# Altium integrated library Lattice CPLD ispMACH.IntLib: 663 symbols (part 4 of 48)
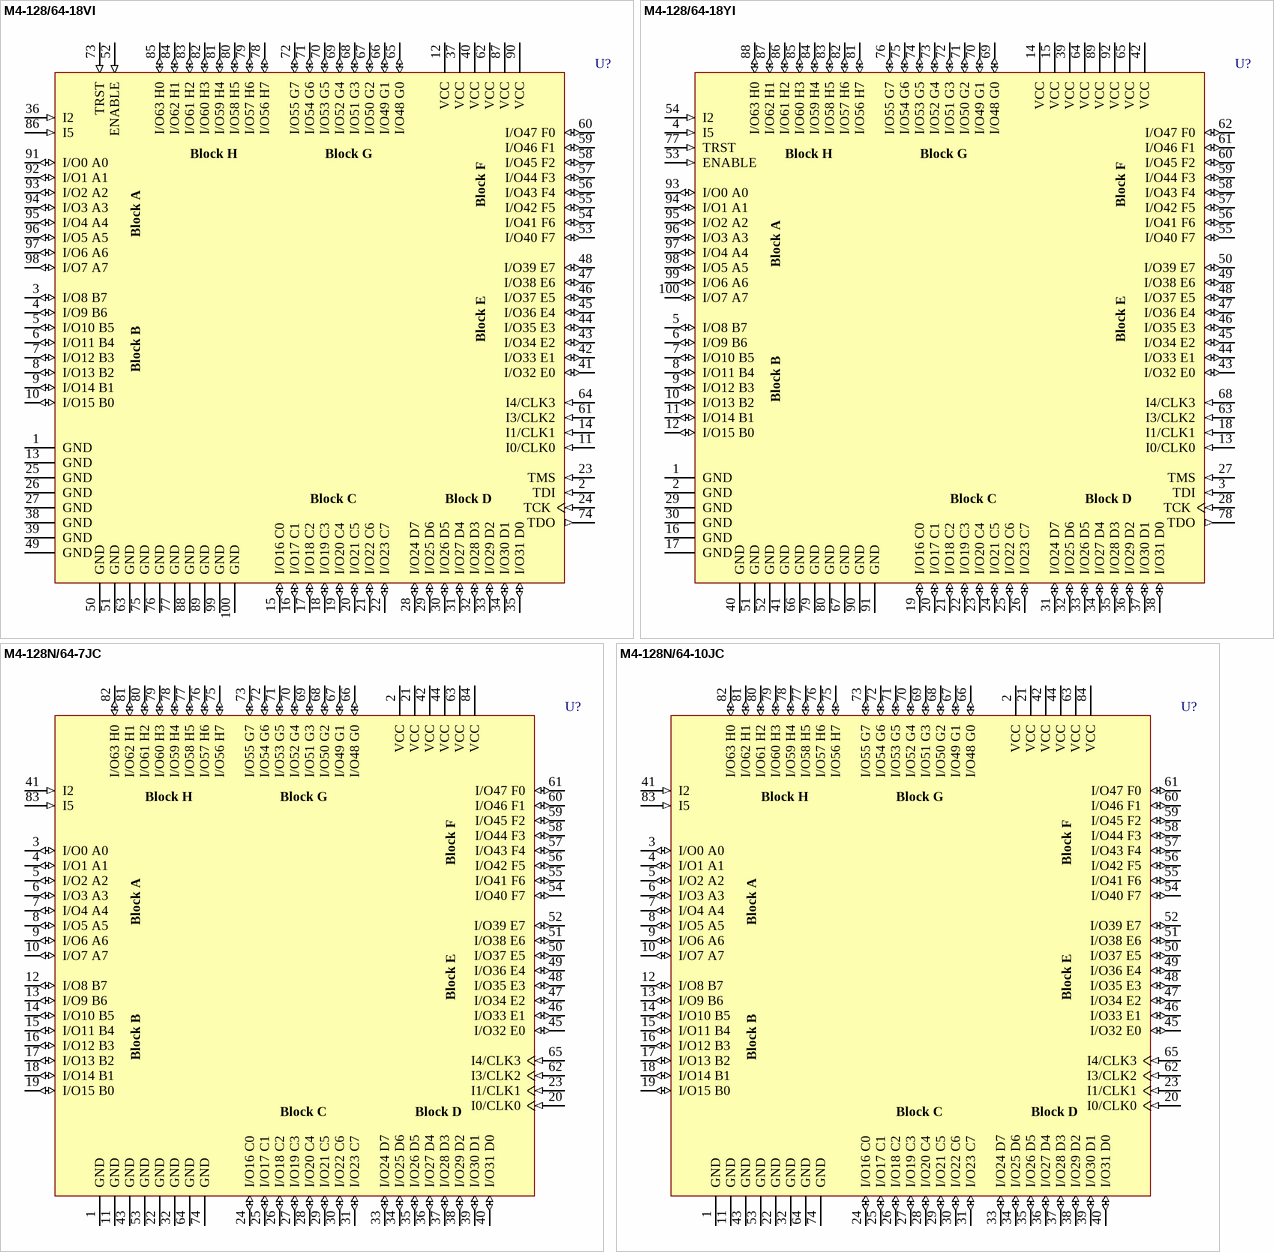
[diagram p309: symbols M4-128/64-18VI to M4-128N/64-10JC]

## M4-128N/64-10JC
designator U?
High-Performance EE CMOS In-System Programmable Logic; Published: 23-Sep-2002; LatestRevisionDate: 13-Apr-2006; LatestRevisionNote: IPC-7351 Footprint Added.; DatasheetVersion: Mar-2000; PackageVersion: pkg_32, Aug-2005; PackageReference: PLCC84; Publisher: Altium Limited; PackageDescription: 84-Pin Leaded Chip Carrier 1.27 mm Pitch; Code_IPC: PLCC-84; ComponentLink1Description: Manufacturer Link; ComponentLink1URL: http://www.latticesemi.com/products/mature/index.cfm; ComponentLink2Description: Datasheet; ComponentLink2URL: http://www.latticesemi.com/lit/docs/datasheets/cpld/mach4.pdf
footprint PLCC84_N (Leaded Chip Carrier, 84-Leads, Body 29.3x29.3mm, Pitch 1.27mm, IPC Medium Density)
footprint PLCC84_L (Leaded Chip Carrier, 84-Leads, Body 29.3x29.3mm, Pitch 1.27mm, IPC High Density)
footprint PLCC84_M (Leaded Chip Carrier, 84-Leads, Body 29.3x29.3mm, Pitch 1.27mm, IPC Low Density)
3D model M4-PLCC84 (84-Pin Leaded Chip Carrier 1.27 mm Pitch)
pins: 1 GND (power), 2 VCC (power), 3 I/O0 A0 (io), 4 I/O1 A1 (io), 5 I/O2 A2 (io), 6 I/O3 A3 (io), 7 I/O4 A4 (io), 8 I/O5 A5 (io), 9 I/O6 A6 (io), 10 I/O7 A7 (io), 11 GND (power), 12 I/O8 B7 (io), 13 I/O9 B6 (io), 14 I/O10 B5 (io), 15 I/O11 B4 (io), 16 I/O12 B3 (io), 17 I/O13 B2 (io), 18 I/O14 B1 (io), 19 I/O15 B0 (io), 20 I0/CLK0 (in), 21 VCC (power), 22 GND (power), 23 I1/CLK1 (in), 24 I/O16 C0 (io), 25 I/O17 C1 (io), 26 I/O18 C2 (io), 27 I/O19 C3 (io), 28 I/O20 C4 (io), 29 I/O21 C5 (io), 30 I/O22 C6 (io), 31 I/O23 C7 (io), 32 GND (power), 33 I/O24 D7 (io), 34 I/O25 D6 (io), 35 I/O26 D5 (io), 36 I/O27 D4 (io), 37 I/O28 D3 (io), 38 I/O29 D2 (io), 39 I/O30 D1 (io), 40 I/O31 D0 (io), 41 I2 (in), 42 VCC (power), 43 GND (power), 44 VCC (power), 45 I/O32 E0 (io), 46 I/O33 E1 (io), 47 I/O34 E2 (io), 48 I/O35 E3 (io), 49 I/O36 E4 (io), 50 I/O37 E5 (io), 51 I/O38 E6 (io), 52 I/O39 E7 (io), 53 GND (power), 54 I/O40 F7 (io), 55 I/O41 F6 (io), 56 I/O42 F5 (io), 57 I/O43 F4 (io), 58 I/O44 F3 (io), 59 I/O45 F2 (io), 60 I/O46 F1 (io), 61 I/O47 F0 (io), 62 I3/CLK2 (in), 63 VCC (power), 64 GND (power), 65 I4/CLK3 (in), 66 I/O48 G0 (io), 67 I/O49 G1 (io), 68 I/O50 G2 (io), 69 I/O51 G3 (io), 70 I/O52 G4 (io), 71 I/O53 G5 (io), 72 I/O54 G6 (io), 73 I/O55 G7 (io), 74 GND (power), 75 I/O56 H7 (io), 76 I/O57 H6 (io), 77 I/O58 H5 (io), 78 I/O59 H4 (io), 79 I/O60 H3 (io), 80 I/O61 H2 (io), 81 I/O62 H1 (io), 82 I/O63 H0 (io), 83 I5 (in), 84 VCC (power)
text: Block H; Block G; Block F; Block A; Block E; Block B; Block C; Block D

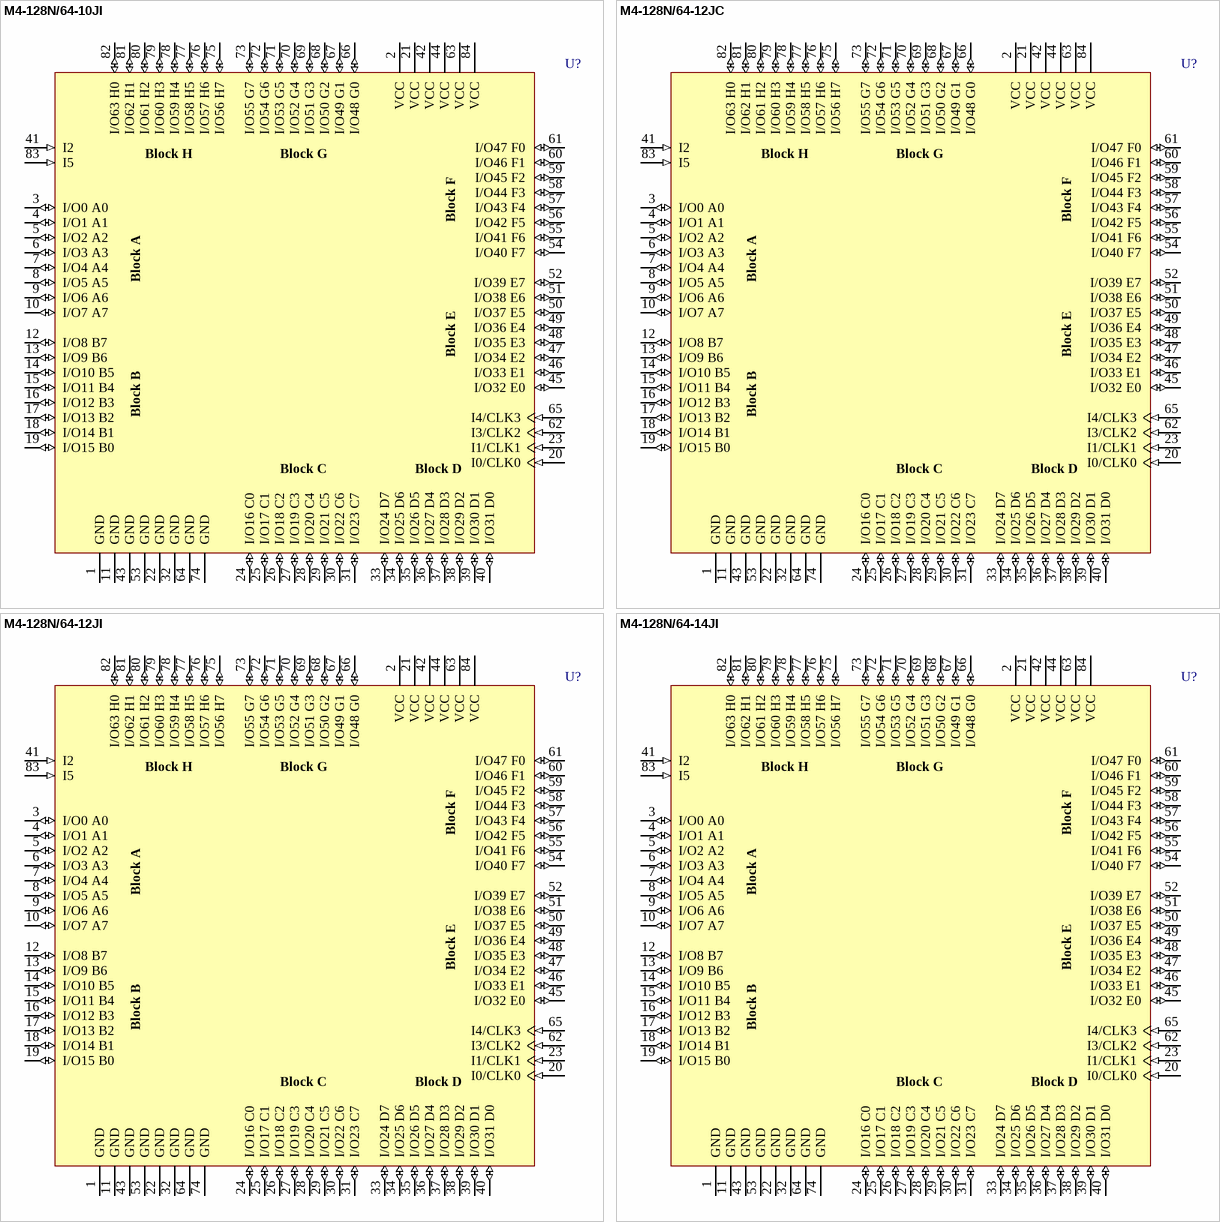
[diagram p12: symbols M4-128N/64-10JI to M4-128N/64-14JI]

## M4-128N/64-10JI
designator U?
High-Performance EE CMOS In-System Programmable Logic; Published: 23-Sep-2002; LatestRevisionDate: 13-Apr-2006; LatestRevisionNote: IPC-7351 Footprint Added.; DatasheetVersion: Mar-2000; PackageVersion: pkg_32, Aug-2005; PackageReference: PLCC84; Publisher: Altium Limited; PackageDescription: 84-Pin Leaded Chip Carrier 1.27 mm Pitch; Code_IPC: PLCC-84; ComponentLink1Description: Manufacturer Link; ComponentLink1URL: http://www.latticesemi.com/products/mature/index.cfm; ComponentLink2Description: Datasheet; ComponentLink2URL: http://www.latticesemi.com/lit/docs/datasheets/cpld/mach4.pdf
footprint PLCC84_N (Leaded Chip Carrier, 84-Leads, Body 29.3x29.3mm, Pitch 1.27mm, IPC Medium Density)
footprint PLCC84_L (Leaded Chip Carrier, 84-Leads, Body 29.3x29.3mm, Pitch 1.27mm, IPC High Density)
footprint PLCC84_M (Leaded Chip Carrier, 84-Leads, Body 29.3x29.3mm, Pitch 1.27mm, IPC Low Density)
3D model M4-PLCC84 (84-Pin Leaded Chip Carrier 1.27 mm Pitch)
pins: 1 GND (power), 2 VCC (power), 3 I/O0 A0 (io), 4 I/O1 A1 (io), 5 I/O2 A2 (io), 6 I/O3 A3 (io), 7 I/O4 A4 (io), 8 I/O5 A5 (io), 9 I/O6 A6 (io), 10 I/O7 A7 (io), 11 GND (power), 12 I/O8 B7 (io), 13 I/O9 B6 (io), 14 I/O10 B5 (io), 15 I/O11 B4 (io), 16 I/O12 B3 (io), 17 I/O13 B2 (io), 18 I/O14 B1 (io), 19 I/O15 B0 (io), 20 I0/CLK0 (in), 21 VCC (power), 22 GND (power), 23 I1/CLK1 (in), 24 I/O16 C0 (io), 25 I/O17 C1 (io), 26 I/O18 C2 (io), 27 I/O19 C3 (io), 28 I/O20 C4 (io), 29 I/O21 C5 (io), 30 I/O22 C6 (io), 31 I/O23 C7 (io), 32 GND (power), 33 I/O24 D7 (io), 34 I/O25 D6 (io), 35 I/O26 D5 (io), 36 I/O27 D4 (io), 37 I/O28 D3 (io), 38 I/O29 D2 (io), 39 I/O30 D1 (io), 40 I/O31 D0 (io), 41 I2 (in), 42 VCC (power), 43 GND (power), 44 VCC (power), 45 I/O32 E0 (io), 46 I/O33 E1 (io), 47 I/O34 E2 (io), 48 I/O35 E3 (io), 49 I/O36 E4 (io), 50 I/O37 E5 (io), 51 I/O38 E6 (io), 52 I/O39 E7 (io), 53 GND (power), 54 I/O40 F7 (io), 55 I/O41 F6 (io), 56 I/O42 F5 (io), 57 I/O43 F4 (io), 58 I/O44 F3 (io), 59 I/O45 F2 (io), 60 I/O46 F1 (io), 61 I/O47 F0 (io), 62 I3/CLK2 (in), 63 VCC (power), 64 GND (power), 65 I4/CLK3 (in), 66 I/O48 G0 (io), 67 I/O49 G1 (io), 68 I/O50 G2 (io), 69 I/O51 G3 (io), 70 I/O52 G4 (io), 71 I/O53 G5 (io), 72 I/O54 G6 (io), 73 I/O55 G7 (io), 74 GND (power), 75 I/O56 H7 (io), 76 I/O57 H6 (io), 77 I/O58 H5 (io), 78 I/O59 H4 (io), 79 I/O60 H3 (io), 80 I/O61 H2 (io), 81 I/O62 H1 (io), 82 I/O63 H0 (io), 83 I5 (in), 84 VCC (power)
text: Block H; Block G; Block F; Block A; Block E; Block B; Block C; Block D

## M4-128N/64-12JC
designator U?
High-Performance EE CMOS In-System Programmable Logic; Published: 23-Sep-2002; LatestRevisionDate: 13-Apr-2006; LatestRevisionNote: IPC-7351 Footprint Added.; DatasheetVersion: Mar-2000; PackageVersion: pkg_32, Aug-2005; PackageReference: PLCC84; Publisher: Altium Limited; PackageDescription: 84-Pin Leaded Chip Carrier 1.27 mm Pitch; Code_IPC: PLCC-84; ComponentLink1Description: Manufacturer Link; ComponentLink1URL: http://www.latticesemi.com/products/mature/index.cfm; ComponentLink2Description: Datasheet; ComponentLink2URL: http://www.latticesemi.com/lit/docs/datasheets/cpld/mach4.pdf
footprint PLCC84_N (Leaded Chip Carrier, 84-Leads, Body 29.3x29.3mm, Pitch 1.27mm, IPC Medium Density)
footprint PLCC84_L (Leaded Chip Carrier, 84-Leads, Body 29.3x29.3mm, Pitch 1.27mm, IPC High Density)
footprint PLCC84_M (Leaded Chip Carrier, 84-Leads, Body 29.3x29.3mm, Pitch 1.27mm, IPC Low Density)
3D model M4-PLCC84 (84-Pin Leaded Chip Carrier 1.27 mm Pitch)
pins: 1 GND (power), 2 VCC (power), 3 I/O0 A0 (io), 4 I/O1 A1 (io), 5 I/O2 A2 (io), 6 I/O3 A3 (io), 7 I/O4 A4 (io), 8 I/O5 A5 (io), 9 I/O6 A6 (io), 10 I/O7 A7 (io), 11 GND (power), 12 I/O8 B7 (io), 13 I/O9 B6 (io), 14 I/O10 B5 (io), 15 I/O11 B4 (io), 16 I/O12 B3 (io), 17 I/O13 B2 (io), 18 I/O14 B1 (io), 19 I/O15 B0 (io), 20 I0/CLK0 (in), 21 VCC (power), 22 GND (power), 23 I1/CLK1 (in), 24 I/O16 C0 (io), 25 I/O17 C1 (io), 26 I/O18 C2 (io), 27 I/O19 C3 (io), 28 I/O20 C4 (io), 29 I/O21 C5 (io), 30 I/O22 C6 (io), 31 I/O23 C7 (io), 32 GND (power), 33 I/O24 D7 (io), 34 I/O25 D6 (io), 35 I/O26 D5 (io), 36 I/O27 D4 (io), 37 I/O28 D3 (io), 38 I/O29 D2 (io), 39 I/O30 D1 (io), 40 I/O31 D0 (io), 41 I2 (in), 42 VCC (power), 43 GND (power), 44 VCC (power), 45 I/O32 E0 (io), 46 I/O33 E1 (io), 47 I/O34 E2 (io), 48 I/O35 E3 (io), 49 I/O36 E4 (io), 50 I/O37 E5 (io), 51 I/O38 E6 (io), 52 I/O39 E7 (io), 53 GND (power), 54 I/O40 F7 (io), 55 I/O41 F6 (io), 56 I/O42 F5 (io), 57 I/O43 F4 (io), 58 I/O44 F3 (io), 59 I/O45 F2 (io), 60 I/O46 F1 (io), 61 I/O47 F0 (io), 62 I3/CLK2 (in), 63 VCC (power), 64 GND (power), 65 I4/CLK3 (in), 66 I/O48 G0 (io), 67 I/O49 G1 (io), 68 I/O50 G2 (io), 69 I/O51 G3 (io), 70 I/O52 G4 (io), 71 I/O53 G5 (io), 72 I/O54 G6 (io), 73 I/O55 G7 (io), 74 GND (power), 75 I/O56 H7 (io), 76 I/O57 H6 (io), 77 I/O58 H5 (io), 78 I/O59 H4 (io), 79 I/O60 H3 (io), 80 I/O61 H2 (io), 81 I/O62 H1 (io), 82 I/O63 H0 (io), 83 I5 (in), 84 VCC (power)
text: Block H; Block G; Block F; Block A; Block E; Block B; Block C; Block D

## M4-128N/64-12JI
designator U?
High-Performance EE CMOS In-System Programmable Logic; Published: 23-Sep-2002; LatestRevisionDate: 13-Apr-2006; LatestRevisionNote: IPC-7351 Footprint Added.; DatasheetVersion: Mar-2000; PackageVersion: pkg_32, Aug-2005; PackageReference: PLCC84; Publisher: Altium Limited; PackageDescription: 84-Pin Leaded Chip Carrier 1.27 mm Pitch; Code_IPC: PLCC-84; ComponentLink1Description: Manufacturer Link; ComponentLink1URL: http://www.latticesemi.com/products/mature/index.cfm; ComponentLink2Description: Datasheet; ComponentLink2URL: http://www.latticesemi.com/lit/docs/datasheets/cpld/mach4.pdf
footprint PLCC84_N (Leaded Chip Carrier, 84-Leads, Body 29.3x29.3mm, Pitch 1.27mm, IPC Medium Density)
footprint PLCC84_L (Leaded Chip Carrier, 84-Leads, Body 29.3x29.3mm, Pitch 1.27mm, IPC High Density)
footprint PLCC84_M (Leaded Chip Carrier, 84-Leads, Body 29.3x29.3mm, Pitch 1.27mm, IPC Low Density)
3D model M4-PLCC84 (84-Pin Leaded Chip Carrier 1.27 mm Pitch)
pins: 1 GND (power), 2 VCC (power), 3 I/O0 A0 (io), 4 I/O1 A1 (io), 5 I/O2 A2 (io), 6 I/O3 A3 (io), 7 I/O4 A4 (io), 8 I/O5 A5 (io), 9 I/O6 A6 (io), 10 I/O7 A7 (io), 11 GND (power), 12 I/O8 B7 (io), 13 I/O9 B6 (io), 14 I/O10 B5 (io), 15 I/O11 B4 (io), 16 I/O12 B3 (io), 17 I/O13 B2 (io), 18 I/O14 B1 (io), 19 I/O15 B0 (io), 20 I0/CLK0 (in), 21 VCC (power), 22 GND (power), 23 I1/CLK1 (in), 24 I/O16 C0 (io), 25 I/O17 C1 (io), 26 I/O18 C2 (io), 27 I/O19 C3 (io), 28 I/O20 C4 (io), 29 I/O21 C5 (io), 30 I/O22 C6 (io), 31 I/O23 C7 (io), 32 GND (power), 33 I/O24 D7 (io), 34 I/O25 D6 (io), 35 I/O26 D5 (io), 36 I/O27 D4 (io), 37 I/O28 D3 (io), 38 I/O29 D2 (io), 39 I/O30 D1 (io), 40 I/O31 D0 (io), 41 I2 (in), 42 VCC (power), 43 GND (power), 44 VCC (power), 45 I/O32 E0 (io), 46 I/O33 E1 (io), 47 I/O34 E2 (io), 48 I/O35 E3 (io), 49 I/O36 E4 (io), 50 I/O37 E5 (io), 51 I/O38 E6 (io), 52 I/O39 E7 (io), 53 GND (power), 54 I/O40 F7 (io), 55 I/O41 F6 (io), 56 I/O42 F5 (io), 57 I/O43 F4 (io), 58 I/O44 F3 (io), 59 I/O45 F2 (io), 60 I/O46 F1 (io), 61 I/O47 F0 (io), 62 I3/CLK2 (in), 63 VCC (power), 64 GND (power), 65 I4/CLK3 (in), 66 I/O48 G0 (io), 67 I/O49 G1 (io), 68 I/O50 G2 (io), 69 I/O51 G3 (io), 70 I/O52 G4 (io), 71 I/O53 G5 (io), 72 I/O54 G6 (io), 73 I/O55 G7 (io), 74 GND (power), 75 I/O56 H7 (io), 76 I/O57 H6 (io), 77 I/O58 H5 (io), 78 I/O59 H4 (io), 79 I/O60 H3 (io), 80 I/O61 H2 (io), 81 I/O62 H1 (io), 82 I/O63 H0 (io), 83 I5 (in), 84 VCC (power)
text: Block H; Block G; Block F; Block A; Block E; Block B; Block C; Block D

## M4-128N/64-14JI
designator U?
High-Performance EE CMOS In-System Programmable Logic; Published: 23-Sep-2002; LatestRevisionDate: 13-Apr-2006; LatestRevisionNote: IPC-7351 Footprint Added.; DatasheetVersion: Mar-2000; PackageVersion: pkg_32, Aug-2005; PackageReference: PLCC84; Publisher: Altium Limited; PackageDescription: 84-Pin Leaded Chip Carrier 1.27 mm Pitch; Code_IPC: PLCC-84; ComponentLink1Description: Manufacturer Link; ComponentLink1URL: http://www.latticesemi.com/products/mature/index.cfm; ComponentLink2Description: Datasheet; ComponentLink2URL: http://www.latticesemi.com/lit/docs/datasheets/cpld/mach4.pdf
footprint PLCC84_N (Leaded Chip Carrier, 84-Leads, Body 29.3x29.3mm, Pitch 1.27mm, IPC Medium Density)
footprint PLCC84_L (Leaded Chip Carrier, 84-Leads, Body 29.3x29.3mm, Pitch 1.27mm, IPC High Density)
footprint PLCC84_M (Leaded Chip Carrier, 84-Leads, Body 29.3x29.3mm, Pitch 1.27mm, IPC Low Density)
3D model M4-PLCC84 (84-Pin Leaded Chip Carrier 1.27 mm Pitch)
pins: 1 GND (power), 2 VCC (power), 3 I/O0 A0 (io), 4 I/O1 A1 (io), 5 I/O2 A2 (io), 6 I/O3 A3 (io), 7 I/O4 A4 (io), 8 I/O5 A5 (io), 9 I/O6 A6 (io), 10 I/O7 A7 (io), 11 GND (power), 12 I/O8 B7 (io), 13 I/O9 B6 (io), 14 I/O10 B5 (io), 15 I/O11 B4 (io), 16 I/O12 B3 (io), 17 I/O13 B2 (io), 18 I/O14 B1 (io), 19 I/O15 B0 (io), 20 I0/CLK0 (in), 21 VCC (power), 22 GND (power), 23 I1/CLK1 (in), 24 I/O16 C0 (io), 25 I/O17 C1 (io), 26 I/O18 C2 (io), 27 I/O19 C3 (io), 28 I/O20 C4 (io), 29 I/O21 C5 (io), 30 I/O22 C6 (io), 31 I/O23 C7 (io), 32 GND (power), 33 I/O24 D7 (io), 34 I/O25 D6 (io), 35 I/O26 D5 (io), 36 I/O27 D4 (io), 37 I/O28 D3 (io), 38 I/O29 D2 (io), 39 I/O30 D1 (io), 40 I/O31 D0 (io), 41 I2 (in), 42 VCC (power), 43 GND (power), 44 VCC (power), 45 I/O32 E0 (io), 46 I/O33 E1 (io), 47 I/O34 E2 (io), 48 I/O35 E3 (io), 49 I/O36 E4 (io), 50 I/O37 E5 (io), 51 I/O38 E6 (io), 52 I/O39 E7 (io), 53 GND (power), 54 I/O40 F7 (io), 55 I/O41 F6 (io), 56 I/O42 F5 (io), 57 I/O43 F4 (io), 58 I/O44 F3 (io), 59 I/O45 F2 (io), 60 I/O46 F1 (io), 61 I/O47 F0 (io), 62 I3/CLK2 (in), 63 VCC (power), 64 GND (power), 65 I4/CLK3 (in), 66 I/O48 G0 (io), 67 I/O49 G1 (io), 68 I/O50 G2 (io), 69 I/O51 G3 (io), 70 I/O52 G4 (io), 71 I/O53 G5 (io), 72 I/O54 G6 (io), 73 I/O55 G7 (io), 74 GND (power), 75 I/O56 H7 (io), 76 I/O57 H6 (io), 77 I/O58 H5 (io), 78 I/O59 H4 (io), 79 I/O60 H3 (io), 80 I/O61 H2 (io), 81 I/O62 H1 (io), 82 I/O63 H0 (io), 83 I5 (in), 84 VCC (power)
text: Block H; Block G; Block F; Block A; Block E; Block B; Block C; Block D

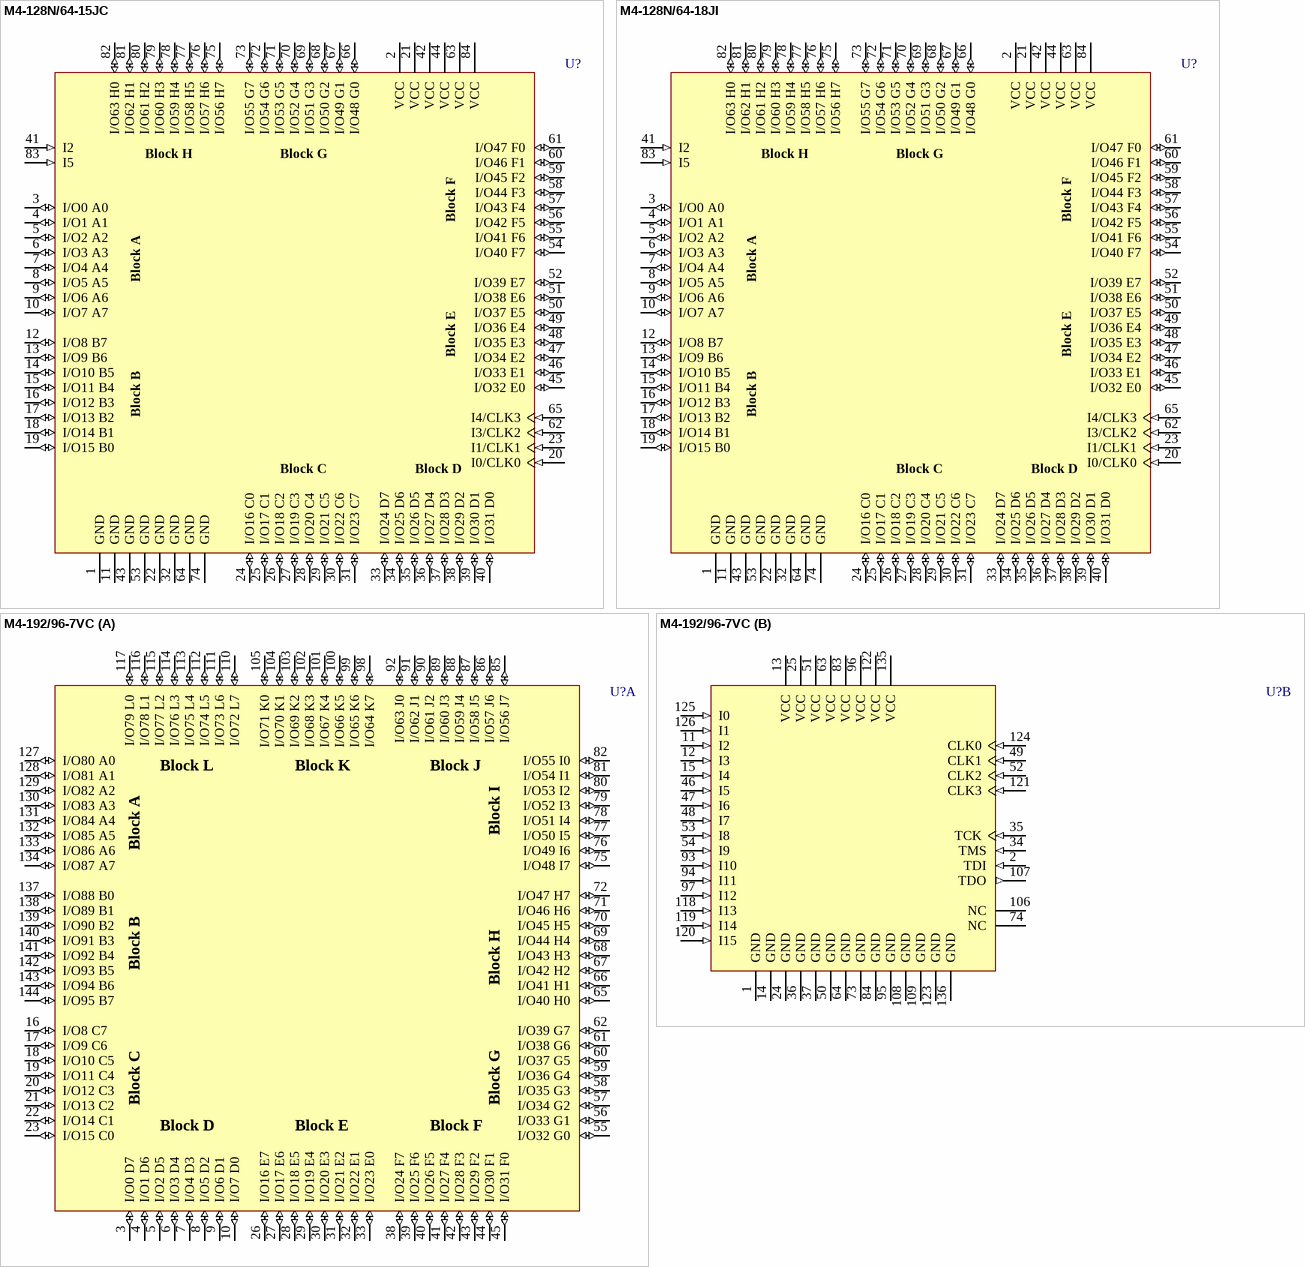
[diagram p13: symbols M4-128N/64-15JC to M4-192/96-7VC]

## M4-128N/64-15JC
designator U?
High-Performance EE CMOS In-System Programmable Logic; Published: 23-Sep-2002; LatestRevisionDate: 13-Apr-2006; LatestRevisionNote: IPC-7351 Footprint Added.; DatasheetVersion: Mar-2000; PackageVersion: pkg_32, Aug-2005; PackageReference: PLCC84; Publisher: Altium Limited; PackageDescription: 84-Pin Leaded Chip Carrier 1.27 mm Pitch; Code_IPC: PLCC-84; ComponentLink1Description: Manufacturer Link; ComponentLink1URL: http://www.latticesemi.com/products/mature/index.cfm; ComponentLink2Description: Datasheet; ComponentLink2URL: http://www.latticesemi.com/lit/docs/datasheets/cpld/mach4.pdf
footprint PLCC84_N (Leaded Chip Carrier, 84-Leads, Body 29.3x29.3mm, Pitch 1.27mm, IPC Medium Density)
footprint PLCC84_L (Leaded Chip Carrier, 84-Leads, Body 29.3x29.3mm, Pitch 1.27mm, IPC High Density)
footprint PLCC84_M (Leaded Chip Carrier, 84-Leads, Body 29.3x29.3mm, Pitch 1.27mm, IPC Low Density)
3D model M4-PLCC84 (84-Pin Leaded Chip Carrier 1.27 mm Pitch)
pins: 1 GND (power), 2 VCC (power), 3 I/O0 A0 (io), 4 I/O1 A1 (io), 5 I/O2 A2 (io), 6 I/O3 A3 (io), 7 I/O4 A4 (io), 8 I/O5 A5 (io), 9 I/O6 A6 (io), 10 I/O7 A7 (io), 11 GND (power), 12 I/O8 B7 (io), 13 I/O9 B6 (io), 14 I/O10 B5 (io), 15 I/O11 B4 (io), 16 I/O12 B3 (io), 17 I/O13 B2 (io), 18 I/O14 B1 (io), 19 I/O15 B0 (io), 20 I0/CLK0 (in), 21 VCC (power), 22 GND (power), 23 I1/CLK1 (in), 24 I/O16 C0 (io), 25 I/O17 C1 (io), 26 I/O18 C2 (io), 27 I/O19 C3 (io), 28 I/O20 C4 (io), 29 I/O21 C5 (io), 30 I/O22 C6 (io), 31 I/O23 C7 (io), 32 GND (power), 33 I/O24 D7 (io), 34 I/O25 D6 (io), 35 I/O26 D5 (io), 36 I/O27 D4 (io), 37 I/O28 D3 (io), 38 I/O29 D2 (io), 39 I/O30 D1 (io), 40 I/O31 D0 (io), 41 I2 (in), 42 VCC (power), 43 GND (power), 44 VCC (power), 45 I/O32 E0 (io), 46 I/O33 E1 (io), 47 I/O34 E2 (io), 48 I/O35 E3 (io), 49 I/O36 E4 (io), 50 I/O37 E5 (io), 51 I/O38 E6 (io), 52 I/O39 E7 (io), 53 GND (power), 54 I/O40 F7 (io), 55 I/O41 F6 (io), 56 I/O42 F5 (io), 57 I/O43 F4 (io), 58 I/O44 F3 (io), 59 I/O45 F2 (io), 60 I/O46 F1 (io), 61 I/O47 F0 (io), 62 I3/CLK2 (in), 63 VCC (power), 64 GND (power), 65 I4/CLK3 (in), 66 I/O48 G0 (io), 67 I/O49 G1 (io), 68 I/O50 G2 (io), 69 I/O51 G3 (io), 70 I/O52 G4 (io), 71 I/O53 G5 (io), 72 I/O54 G6 (io), 73 I/O55 G7 (io), 74 GND (power), 75 I/O56 H7 (io), 76 I/O57 H6 (io), 77 I/O58 H5 (io), 78 I/O59 H4 (io), 79 I/O60 H3 (io), 80 I/O61 H2 (io), 81 I/O62 H1 (io), 82 I/O63 H0 (io), 83 I5 (in), 84 VCC (power)
text: Block H; Block G; Block F; Block A; Block E; Block B; Block C; Block D

## M4-128N/64-18JI
designator U?
High-Performance EE CMOS In-System Programmable Logic; Published: 23-Sep-2002; LatestRevisionDate: 13-Apr-2006; LatestRevisionNote: IPC-7351 Footprint Added.; DatasheetVersion: Mar-2000; PackageVersion: pkg_32, Aug-2005; PackageReference: PLCC84; Publisher: Altium Limited; PackageDescription: 84-Pin Leaded Chip Carrier 1.27 mm Pitch; Code_IPC: PLCC-84; ComponentLink1Description: Manufacturer Link; ComponentLink1URL: http://www.latticesemi.com/products/mature/index.cfm; ComponentLink2Description: Datasheet; ComponentLink2URL: http://www.latticesemi.com/lit/docs/datasheets/cpld/mach4.pdf
footprint PLCC84_N (Leaded Chip Carrier, 84-Leads, Body 29.3x29.3mm, Pitch 1.27mm, IPC Medium Density)
footprint PLCC84_L (Leaded Chip Carrier, 84-Leads, Body 29.3x29.3mm, Pitch 1.27mm, IPC High Density)
footprint PLCC84_M (Leaded Chip Carrier, 84-Leads, Body 29.3x29.3mm, Pitch 1.27mm, IPC Low Density)
3D model M4-PLCC84 (84-Pin Leaded Chip Carrier 1.27 mm Pitch)
pins: 1 GND (power), 2 VCC (power), 3 I/O0 A0 (io), 4 I/O1 A1 (io), 5 I/O2 A2 (io), 6 I/O3 A3 (io), 7 I/O4 A4 (io), 8 I/O5 A5 (io), 9 I/O6 A6 (io), 10 I/O7 A7 (io), 11 GND (power), 12 I/O8 B7 (io), 13 I/O9 B6 (io), 14 I/O10 B5 (io), 15 I/O11 B4 (io), 16 I/O12 B3 (io), 17 I/O13 B2 (io), 18 I/O14 B1 (io), 19 I/O15 B0 (io), 20 I0/CLK0 (in), 21 VCC (power), 22 GND (power), 23 I1/CLK1 (in), 24 I/O16 C0 (io), 25 I/O17 C1 (io), 26 I/O18 C2 (io), 27 I/O19 C3 (io), 28 I/O20 C4 (io), 29 I/O21 C5 (io), 30 I/O22 C6 (io), 31 I/O23 C7 (io), 32 GND (power), 33 I/O24 D7 (io), 34 I/O25 D6 (io), 35 I/O26 D5 (io), 36 I/O27 D4 (io), 37 I/O28 D3 (io), 38 I/O29 D2 (io), 39 I/O30 D1 (io), 40 I/O31 D0 (io), 41 I2 (in), 42 VCC (power), 43 GND (power), 44 VCC (power), 45 I/O32 E0 (io), 46 I/O33 E1 (io), 47 I/O34 E2 (io), 48 I/O35 E3 (io), 49 I/O36 E4 (io), 50 I/O37 E5 (io), 51 I/O38 E6 (io), 52 I/O39 E7 (io), 53 GND (power), 54 I/O40 F7 (io), 55 I/O41 F6 (io), 56 I/O42 F5 (io), 57 I/O43 F4 (io), 58 I/O44 F3 (io), 59 I/O45 F2 (io), 60 I/O46 F1 (io), 61 I/O47 F0 (io), 62 I3/CLK2 (in), 63 VCC (power), 64 GND (power), 65 I4/CLK3 (in), 66 I/O48 G0 (io), 67 I/O49 G1 (io), 68 I/O50 G2 (io), 69 I/O51 G3 (io), 70 I/O52 G4 (io), 71 I/O53 G5 (io), 72 I/O54 G6 (io), 73 I/O55 G7 (io), 74 GND (power), 75 I/O56 H7 (io), 76 I/O57 H6 (io), 77 I/O58 H5 (io), 78 I/O59 H4 (io), 79 I/O60 H3 (io), 80 I/O61 H2 (io), 81 I/O62 H1 (io), 82 I/O63 H0 (io), 83 I5 (in), 84 VCC (power)
text: Block H; Block G; Block F; Block A; Block E; Block B; Block C; Block D

## M4-192/96-7VC
designator U?
High-Performance EE CMOS In-System Programmable Logic; Published: 23-Sep-2002; LatestRevisionDate: 13-Apr-2006; LatestRevisionNote: IPC-7351 Footprint Added.; DatasheetVersion: Mar-2000; PackageVersion: pkg_32, Aug-2005; PackageReference: TQFP144; Publisher: Altium Limited; PackageDescription: 144-Pin Thin Quad Flat Pack (TQFP144); Code_JEDEC: MS-026-BFB; ComponentLink1Description: Manufacturer Link; ComponentLink1URL: http://www.latticesemi.com/products/mature/index.cfm; ComponentLink2Description: Datasheet; ComponentLink2URL: http://www.latticesemi.com/lit/docs/datasheets/cpld/mach4.pdf
footprint TQFP144_N (Thin QFP, 144-Leads, Body 20x20mm, Pitch 0.5mm, IPC Medium Density)
footprint TQFP144_L (Thin QFP, 144-Leads, Body 20x20mm, Pitch 0.5mm, IPC High Density)
footprint TQFP144_M (Thin QFP, 144-Leads, Body 20x20mm, Pitch 0.5mm, IPC Low Density)
3D model M4-TQFP144 (144-Pin Thin Quad Flat Pack (TQFP144))
part A pins: 3 I/O0 D7 (io), 4 I/O1 D6 (io), 5 I/O2 D5 (io), 6 I/O3 D4 (io), 7 I/O4 D3 (io), 8 I/O5 D2 (io), 9 I/O6 D1 (io), 10 I/O7 D0 (io), 16 I/O8 C7 (io), 17 I/O9 C6 (io), 18 I/O10 C5 (io), 19 I/O11 C4 (io), 20 I/O12 C3 (io), 21 I/O13 C2 (io), 22 I/O14 C1 (io), 23 I/O15 C0 (io), 26 I/O16 E7 (io), 27 I/O17 E6 (io), 28 I/O18 E5 (io), 29 I/O19 E4 (io), 30 I/O20 E3 (io), 31 I/O21 E2 (io), 32 I/O22 E1 (io), 33 I/O23 E0 (io), 38 I/O24 F7 (io), 39 I/O25 F6 (io), 40 I/O26 F5 (io), 41 I/O27 F4 (io), 42 I/O28 F3 (io), 43 I/O29 F2 (io), 44 I/O30 F1 (io), 45 I/O31 F0 (io), 55 I/O32 G0 (io), 56 I/O33 G1 (io), 57 I/O34 G2 (io), 58 I/O35 G3 (io), 59 I/O36 G4 (io), 60 I/O37 G5 (io), 61 I/O38 G6 (io), 62 I/O39 G7 (io), 65 I/O40 H0 (io), 66 I/O41 H1 (io), 67 I/O42 H2 (io), 68 I/O43 H3 (io), 69 I/O44 H4 (io), 70 I/O45 H5 (io), 71 I/O46 H6 (io), 72 I/O47 H7 (io), 75 I/O48 I7 (io), 76 I/O49 I6 (io), 77 I/O50 I5 (io), 78 I/O51 I4 (io), 79 I/O52 I3 (io), 80 I/O53 I2 (io), 81 I/O54 I1 (io), 82 I/O55 I0 (io), 85 I/O56 J7 (io), 86 I/O57 J6 (io), 87 I/O58 J5 (io), 88 I/O59 J4 (io), 89 I/O60 J3 (io), 90 I/O61 J2 (io), 91 I/O62 J1 (io), 92 I/O63 J0 (io), 98 I/O64 K7 (io), 99 I/O65 K6 (io), 100 I/O66 K5 (io), 101 I/O67 K4 (io), 102 I/O68 K3 (io), 103 I/O69 K2 (io), 104 I/O70 K1 (io), 105 I/O71 K0 (io), 110 I/O72 L7 (io), 111 I/O73 L6 (io), 112 I/O74 L5 (io), 113 I/O75 L4 (io), 114 I/O76 L3 (io), 115 I/O77 L2 (io), 116 I/O78 L1 (io), 117 I/O79 L0 (io), 127 I/O80 A0 (io), 128 I/O81 A1 (io), 129 I/O82 A2 (io), 130 I/O83 A3 (io), 131 I/O84 A4 (io), 132 I/O85 A5 (io), 133 I/O86 A6 (io), 134 I/O87 A7 (io), 137 I/O88 B0 (io), 138 I/O89 B1 (io), 139 I/O90 B2 (io), 140 I/O91 B3 (io), 141 I/O92 B4 (io), 142 I/O93 B5 (io), 143 I/O94 B6 (io), 144 I/O95 B7 (io)
part B pins: 1 GND (power), 2 TDI (in), 11 I2 (in), 12 I3 (in), 13 VCC (power), 14 GND (power), 15 I4 (in), 24 GND (power), 25 VCC (power), 34 TMS (in), 35 TCK (in), 36 GND (power), 37 GND (power), 46 I5 (in), 47 I6 (in), 48 I7 (in), 49 CLK1 (in), 50 GND (power), 51 VCC (power), 52 CLK2 (in), 53 I8 (in), 54 I9 (in), 63 VCC (power), 64 GND (power), 73 GND (power), 74 NC, 83 VCC (power), 84 GND (power), 93 I10 (in), 94 I11 (in), 95 GND (power), 96 VCC (power), 97 I12 (in), 106 NC, 107 TDO (out), 108 GND (power), 109 GND (power), 118 I13 (in), 119 I14 (in), 120 I15 (in), 121 CLK3 (in), 122 VCC (power), 123 GND (power), 124 CLK0 (in), 125 I0 (in), 126 I1 (in), 135 VCC (power), 136 GND (power)
part A text: Block L; Block K; Block J; Block I; Block A; Block B; Block H; Block C; Block G; Block D; Block E; Block F

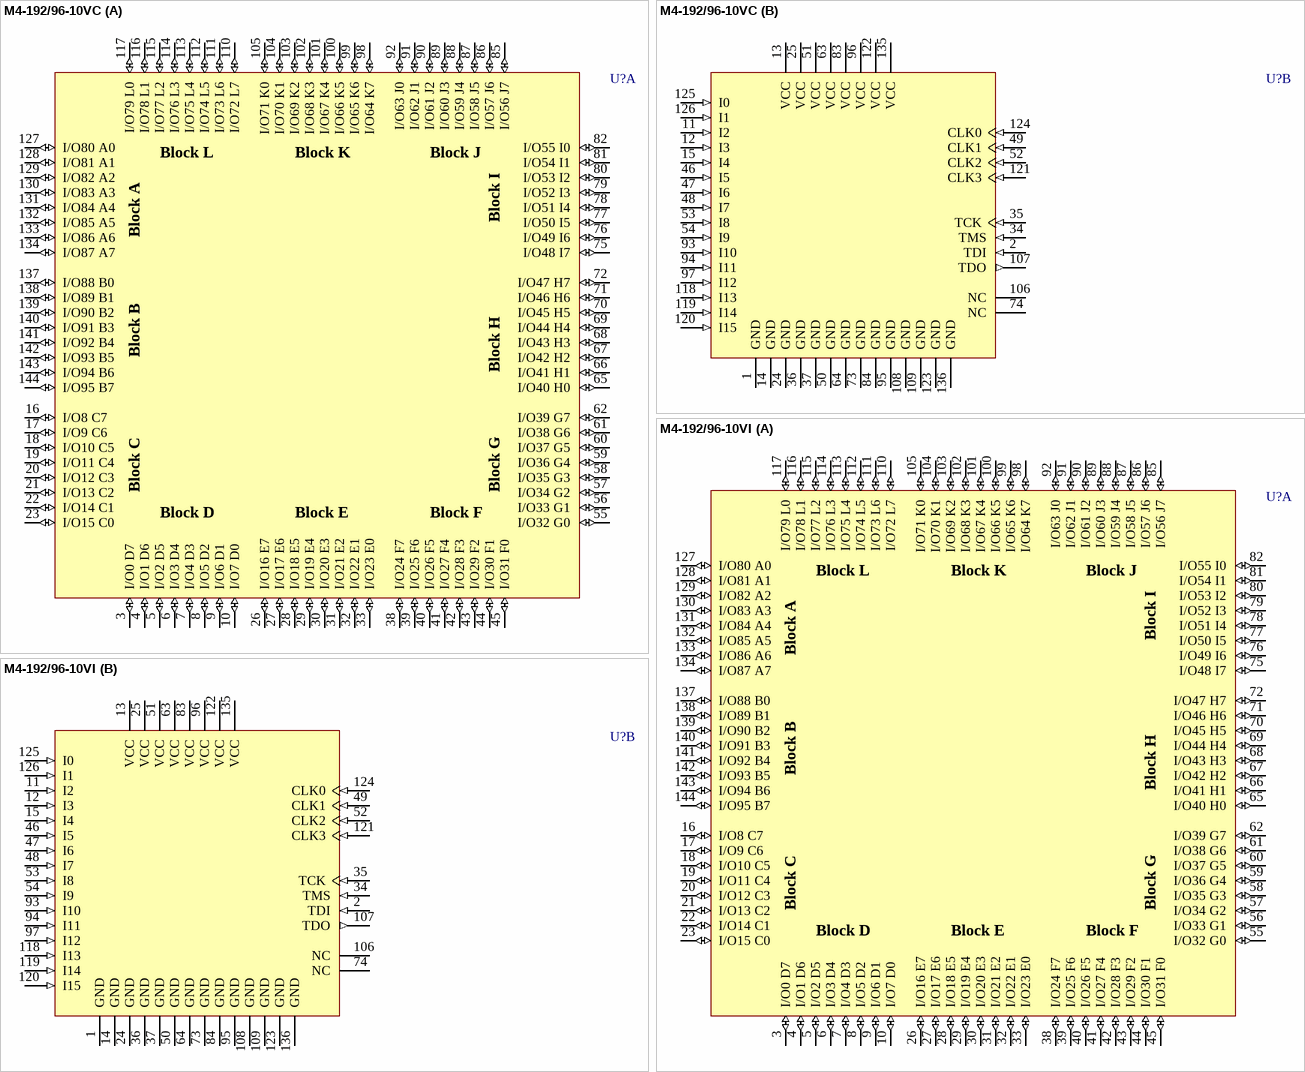
[diagram p14: symbols M4-192/96-10VC to M4-192/96-10VI]

## M4-192/96-10VC
designator U?
High-Performance EE CMOS In-System Programmable Logic; Published: 23-Sep-2002; LatestRevisionDate: 13-Apr-2006; LatestRevisionNote: IPC-7351 Footprint Added.; DatasheetVersion: Mar-2000; PackageVersion: pkg_32, Aug-2005; PackageReference: TQFP144; Publisher: Altium Limited; PackageDescription: 144-Pin Thin Quad Flat Pack (TQFP144); Code_JEDEC: MS-026-BFB; ComponentLink1Description: Manufacturer Link; ComponentLink1URL: http://www.latticesemi.com/products/mature/index.cfm; ComponentLink2Description: Datasheet; ComponentLink2URL: http://www.latticesemi.com/lit/docs/datasheets/cpld/mach4.pdf
footprint TQFP144_N (Thin QFP, 144-Leads, Body 20x20mm, Pitch 0.5mm, IPC Medium Density)
footprint TQFP144_L (Thin QFP, 144-Leads, Body 20x20mm, Pitch 0.5mm, IPC High Density)
footprint TQFP144_M (Thin QFP, 144-Leads, Body 20x20mm, Pitch 0.5mm, IPC Low Density)
3D model M4-TQFP144 (144-Pin Thin Quad Flat Pack (TQFP144))
part A pins: 3 I/O0 D7 (io), 4 I/O1 D6 (io), 5 I/O2 D5 (io), 6 I/O3 D4 (io), 7 I/O4 D3 (io), 8 I/O5 D2 (io), 9 I/O6 D1 (io), 10 I/O7 D0 (io), 16 I/O8 C7 (io), 17 I/O9 C6 (io), 18 I/O10 C5 (io), 19 I/O11 C4 (io), 20 I/O12 C3 (io), 21 I/O13 C2 (io), 22 I/O14 C1 (io), 23 I/O15 C0 (io), 26 I/O16 E7 (io), 27 I/O17 E6 (io), 28 I/O18 E5 (io), 29 I/O19 E4 (io), 30 I/O20 E3 (io), 31 I/O21 E2 (io), 32 I/O22 E1 (io), 33 I/O23 E0 (io), 38 I/O24 F7 (io), 39 I/O25 F6 (io), 40 I/O26 F5 (io), 41 I/O27 F4 (io), 42 I/O28 F3 (io), 43 I/O29 F2 (io), 44 I/O30 F1 (io), 45 I/O31 F0 (io), 55 I/O32 G0 (io), 56 I/O33 G1 (io), 57 I/O34 G2 (io), 58 I/O35 G3 (io), 59 I/O36 G4 (io), 60 I/O37 G5 (io), 61 I/O38 G6 (io), 62 I/O39 G7 (io), 65 I/O40 H0 (io), 66 I/O41 H1 (io), 67 I/O42 H2 (io), 68 I/O43 H3 (io), 69 I/O44 H4 (io), 70 I/O45 H5 (io), 71 I/O46 H6 (io), 72 I/O47 H7 (io), 75 I/O48 I7 (io), 76 I/O49 I6 (io), 77 I/O50 I5 (io), 78 I/O51 I4 (io), 79 I/O52 I3 (io), 80 I/O53 I2 (io), 81 I/O54 I1 (io), 82 I/O55 I0 (io), 85 I/O56 J7 (io), 86 I/O57 J6 (io), 87 I/O58 J5 (io), 88 I/O59 J4 (io), 89 I/O60 J3 (io), 90 I/O61 J2 (io), 91 I/O62 J1 (io), 92 I/O63 J0 (io), 98 I/O64 K7 (io), 99 I/O65 K6 (io), 100 I/O66 K5 (io), 101 I/O67 K4 (io), 102 I/O68 K3 (io), 103 I/O69 K2 (io), 104 I/O70 K1 (io), 105 I/O71 K0 (io), 110 I/O72 L7 (io), 111 I/O73 L6 (io), 112 I/O74 L5 (io), 113 I/O75 L4 (io), 114 I/O76 L3 (io), 115 I/O77 L2 (io), 116 I/O78 L1 (io), 117 I/O79 L0 (io), 127 I/O80 A0 (io), 128 I/O81 A1 (io), 129 I/O82 A2 (io), 130 I/O83 A3 (io), 131 I/O84 A4 (io), 132 I/O85 A5 (io), 133 I/O86 A6 (io), 134 I/O87 A7 (io), 137 I/O88 B0 (io), 138 I/O89 B1 (io), 139 I/O90 B2 (io), 140 I/O91 B3 (io), 141 I/O92 B4 (io), 142 I/O93 B5 (io), 143 I/O94 B6 (io), 144 I/O95 B7 (io)
part B pins: 1 GND (power), 2 TDI (in), 11 I2 (in), 12 I3 (in), 13 VCC (power), 14 GND (power), 15 I4 (in), 24 GND (power), 25 VCC (power), 34 TMS (in), 35 TCK (in), 36 GND (power), 37 GND (power), 46 I5 (in), 47 I6 (in), 48 I7 (in), 49 CLK1 (in), 50 GND (power), 51 VCC (power), 52 CLK2 (in), 53 I8 (in), 54 I9 (in), 63 VCC (power), 64 GND (power), 73 GND (power), 74 NC, 83 VCC (power), 84 GND (power), 93 I10 (in), 94 I11 (in), 95 GND (power), 96 VCC (power), 97 I12 (in), 106 NC, 107 TDO (out), 108 GND (power), 109 GND (power), 118 I13 (in), 119 I14 (in), 120 I15 (in), 121 CLK3 (in), 122 VCC (power), 123 GND (power), 124 CLK0 (in), 125 I0 (in), 126 I1 (in), 135 VCC (power), 136 GND (power)
part A text: Block L; Block K; Block J; Block I; Block A; Block B; Block H; Block C; Block G; Block D; Block E; Block F

## M4-192/96-10VI
designator U?
High-Performance EE CMOS In-System Programmable Logic; Published: 23-Sep-2002; LatestRevisionDate: 13-Apr-2006; LatestRevisionNote: IPC-7351 Footprint Added.; DatasheetVersion: Mar-2000; PackageVersion: pkg_32, Aug-2005; PackageReference: TQFP144; Publisher: Altium Limited; PackageDescription: 144-Pin Thin Quad Flat Pack (TQFP144); Code_JEDEC: MS-026-BFB; ComponentLink1Description: Manufacturer Link; ComponentLink1URL: http://www.latticesemi.com/products/mature/index.cfm; ComponentLink2Description: Datasheet; ComponentLink2URL: http://www.latticesemi.com/lit/docs/datasheets/cpld/mach4.pdf
footprint TQFP144_N (Thin QFP, 144-Leads, Body 20x20mm, Pitch 0.5mm, IPC Medium Density)
footprint TQFP144_L (Thin QFP, 144-Leads, Body 20x20mm, Pitch 0.5mm, IPC High Density)
footprint TQFP144_M (Thin QFP, 144-Leads, Body 20x20mm, Pitch 0.5mm, IPC Low Density)
3D model M4-TQFP144 (144-Pin Thin Quad Flat Pack (TQFP144))
part A pins: 3 I/O0 D7 (io), 4 I/O1 D6 (io), 5 I/O2 D5 (io), 6 I/O3 D4 (io), 7 I/O4 D3 (io), 8 I/O5 D2 (io), 9 I/O6 D1 (io), 10 I/O7 D0 (io), 16 I/O8 C7 (io), 17 I/O9 C6 (io), 18 I/O10 C5 (io), 19 I/O11 C4 (io), 20 I/O12 C3 (io), 21 I/O13 C2 (io), 22 I/O14 C1 (io), 23 I/O15 C0 (io), 26 I/O16 E7 (io), 27 I/O17 E6 (io), 28 I/O18 E5 (io), 29 I/O19 E4 (io), 30 I/O20 E3 (io), 31 I/O21 E2 (io), 32 I/O22 E1 (io), 33 I/O23 E0 (io), 38 I/O24 F7 (io), 39 I/O25 F6 (io), 40 I/O26 F5 (io), 41 I/O27 F4 (io), 42 I/O28 F3 (io), 43 I/O29 F2 (io), 44 I/O30 F1 (io), 45 I/O31 F0 (io), 55 I/O32 G0 (io), 56 I/O33 G1 (io), 57 I/O34 G2 (io), 58 I/O35 G3 (io), 59 I/O36 G4 (io), 60 I/O37 G5 (io), 61 I/O38 G6 (io), 62 I/O39 G7 (io), 65 I/O40 H0 (io), 66 I/O41 H1 (io), 67 I/O42 H2 (io), 68 I/O43 H3 (io), 69 I/O44 H4 (io), 70 I/O45 H5 (io), 71 I/O46 H6 (io), 72 I/O47 H7 (io), 75 I/O48 I7 (io), 76 I/O49 I6 (io), 77 I/O50 I5 (io), 78 I/O51 I4 (io), 79 I/O52 I3 (io), 80 I/O53 I2 (io), 81 I/O54 I1 (io), 82 I/O55 I0 (io), 85 I/O56 J7 (io), 86 I/O57 J6 (io), 87 I/O58 J5 (io), 88 I/O59 J4 (io), 89 I/O60 J3 (io), 90 I/O61 J2 (io), 91 I/O62 J1 (io), 92 I/O63 J0 (io), 98 I/O64 K7 (io), 99 I/O65 K6 (io), 100 I/O66 K5 (io), 101 I/O67 K4 (io), 102 I/O68 K3 (io), 103 I/O69 K2 (io), 104 I/O70 K1 (io), 105 I/O71 K0 (io), 110 I/O72 L7 (io), 111 I/O73 L6 (io), 112 I/O74 L5 (io), 113 I/O75 L4 (io), 114 I/O76 L3 (io), 115 I/O77 L2 (io), 116 I/O78 L1 (io), 117 I/O79 L0 (io), 127 I/O80 A0 (io), 128 I/O81 A1 (io), 129 I/O82 A2 (io), 130 I/O83 A3 (io), 131 I/O84 A4 (io), 132 I/O85 A5 (io), 133 I/O86 A6 (io), 134 I/O87 A7 (io), 137 I/O88 B0 (io), 138 I/O89 B1 (io), 139 I/O90 B2 (io), 140 I/O91 B3 (io), 141 I/O92 B4 (io), 142 I/O93 B5 (io), 143 I/O94 B6 (io), 144 I/O95 B7 (io)
part B pins: 1 GND (power), 2 TDI (in), 11 I2 (in), 12 I3 (in), 13 VCC (power), 14 GND (power), 15 I4 (in), 24 GND (power), 25 VCC (power), 34 TMS (in), 35 TCK (in), 36 GND (power), 37 GND (power), 46 I5 (in), 47 I6 (in), 48 I7 (in), 49 CLK1 (in), 50 GND (power), 51 VCC (power), 52 CLK2 (in), 53 I8 (in), 54 I9 (in), 63 VCC (power), 64 GND (power), 73 GND (power), 74 NC, 83 VCC (power), 84 GND (power), 93 I10 (in), 94 I11 (in), 95 GND (power), 96 VCC (power), 97 I12 (in), 106 NC, 107 TDO (out), 108 GND (power), 109 GND (power), 118 I13 (in), 119 I14 (in), 120 I15 (in), 121 CLK3 (in), 122 VCC (power), 123 GND (power), 124 CLK0 (in), 125 I0 (in), 126 I1 (in), 135 VCC (power), 136 GND (power)
part A text: Block L; Block K; Block J; Block I; Block A; Block B; Block H; Block C; Block G; Block D; Block E; Block F

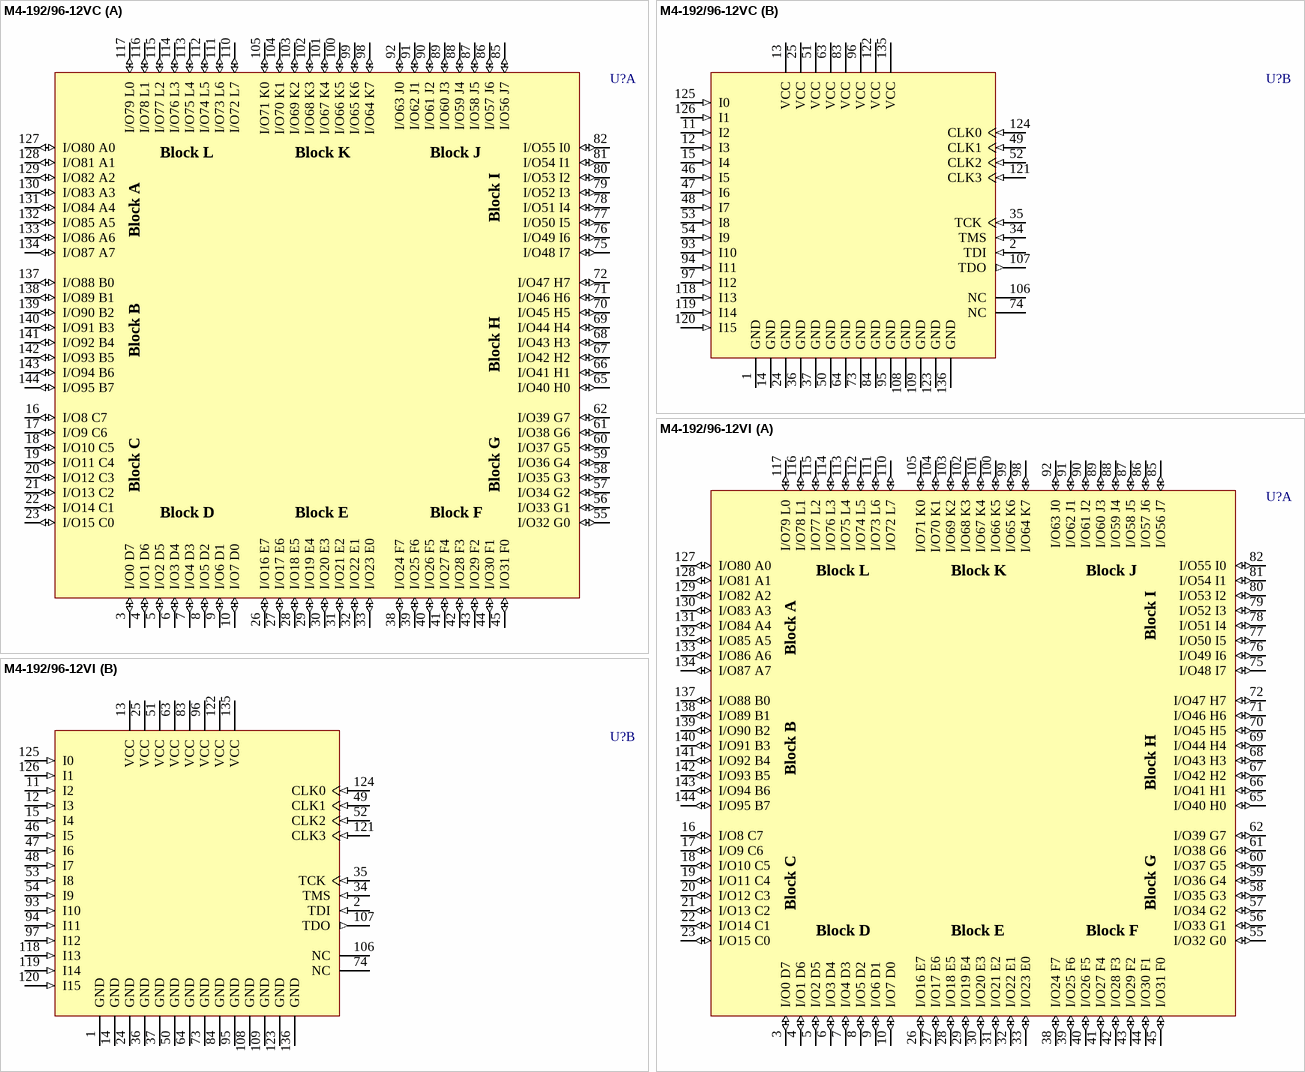
[diagram p15: symbols M4-192/96-12VC to M4-192/96-12VI]

## M4-192/96-12VC
designator U?
High-Performance EE CMOS In-System Programmable Logic; Published: 23-Sep-2002; LatestRevisionDate: 13-Apr-2006; LatestRevisionNote: IPC-7351 Footprint Added.; DatasheetVersion: Mar-2000; PackageVersion: pkg_32, Aug-2005; PackageReference: TQFP144; Publisher: Altium Limited; PackageDescription: 144-Pin Thin Quad Flat Pack (TQFP144); Code_JEDEC: MS-026-BFB; ComponentLink1Description: Manufacturer Link; ComponentLink1URL: http://www.latticesemi.com/products/mature/index.cfm; ComponentLink2Description: Datasheet; ComponentLink2URL: http://www.latticesemi.com/lit/docs/datasheets/cpld/mach4.pdf
footprint TQFP144_N (Thin QFP, 144-Leads, Body 20x20mm, Pitch 0.5mm, IPC Medium Density)
footprint TQFP144_L (Thin QFP, 144-Leads, Body 20x20mm, Pitch 0.5mm, IPC High Density)
footprint TQFP144_M (Thin QFP, 144-Leads, Body 20x20mm, Pitch 0.5mm, IPC Low Density)
3D model M4-TQFP144 (144-Pin Thin Quad Flat Pack (TQFP144))
part A pins: 3 I/O0 D7 (io), 4 I/O1 D6 (io), 5 I/O2 D5 (io), 6 I/O3 D4 (io), 7 I/O4 D3 (io), 8 I/O5 D2 (io), 9 I/O6 D1 (io), 10 I/O7 D0 (io), 16 I/O8 C7 (io), 17 I/O9 C6 (io), 18 I/O10 C5 (io), 19 I/O11 C4 (io), 20 I/O12 C3 (io), 21 I/O13 C2 (io), 22 I/O14 C1 (io), 23 I/O15 C0 (io), 26 I/O16 E7 (io), 27 I/O17 E6 (io), 28 I/O18 E5 (io), 29 I/O19 E4 (io), 30 I/O20 E3 (io), 31 I/O21 E2 (io), 32 I/O22 E1 (io), 33 I/O23 E0 (io), 38 I/O24 F7 (io), 39 I/O25 F6 (io), 40 I/O26 F5 (io), 41 I/O27 F4 (io), 42 I/O28 F3 (io), 43 I/O29 F2 (io), 44 I/O30 F1 (io), 45 I/O31 F0 (io), 55 I/O32 G0 (io), 56 I/O33 G1 (io), 57 I/O34 G2 (io), 58 I/O35 G3 (io), 59 I/O36 G4 (io), 60 I/O37 G5 (io), 61 I/O38 G6 (io), 62 I/O39 G7 (io), 65 I/O40 H0 (io), 66 I/O41 H1 (io), 67 I/O42 H2 (io), 68 I/O43 H3 (io), 69 I/O44 H4 (io), 70 I/O45 H5 (io), 71 I/O46 H6 (io), 72 I/O47 H7 (io), 75 I/O48 I7 (io), 76 I/O49 I6 (io), 77 I/O50 I5 (io), 78 I/O51 I4 (io), 79 I/O52 I3 (io), 80 I/O53 I2 (io), 81 I/O54 I1 (io), 82 I/O55 I0 (io), 85 I/O56 J7 (io), 86 I/O57 J6 (io), 87 I/O58 J5 (io), 88 I/O59 J4 (io), 89 I/O60 J3 (io), 90 I/O61 J2 (io), 91 I/O62 J1 (io), 92 I/O63 J0 (io), 98 I/O64 K7 (io), 99 I/O65 K6 (io), 100 I/O66 K5 (io), 101 I/O67 K4 (io), 102 I/O68 K3 (io), 103 I/O69 K2 (io), 104 I/O70 K1 (io), 105 I/O71 K0 (io), 110 I/O72 L7 (io), 111 I/O73 L6 (io), 112 I/O74 L5 (io), 113 I/O75 L4 (io), 114 I/O76 L3 (io), 115 I/O77 L2 (io), 116 I/O78 L1 (io), 117 I/O79 L0 (io), 127 I/O80 A0 (io), 128 I/O81 A1 (io), 129 I/O82 A2 (io), 130 I/O83 A3 (io), 131 I/O84 A4 (io), 132 I/O85 A5 (io), 133 I/O86 A6 (io), 134 I/O87 A7 (io), 137 I/O88 B0 (io), 138 I/O89 B1 (io), 139 I/O90 B2 (io), 140 I/O91 B3 (io), 141 I/O92 B4 (io), 142 I/O93 B5 (io), 143 I/O94 B6 (io), 144 I/O95 B7 (io)
part B pins: 1 GND (power), 2 TDI (in), 11 I2 (in), 12 I3 (in), 13 VCC (power), 14 GND (power), 15 I4 (in), 24 GND (power), 25 VCC (power), 34 TMS (in), 35 TCK (in), 36 GND (power), 37 GND (power), 46 I5 (in), 47 I6 (in), 48 I7 (in), 49 CLK1 (in), 50 GND (power), 51 VCC (power), 52 CLK2 (in), 53 I8 (in), 54 I9 (in), 63 VCC (power), 64 GND (power), 73 GND (power), 74 NC, 83 VCC (power), 84 GND (power), 93 I10 (in), 94 I11 (in), 95 GND (power), 96 VCC (power), 97 I12 (in), 106 NC, 107 TDO (out), 108 GND (power), 109 GND (power), 118 I13 (in), 119 I14 (in), 120 I15 (in), 121 CLK3 (in), 122 VCC (power), 123 GND (power), 124 CLK0 (in), 125 I0 (in), 126 I1 (in), 135 VCC (power), 136 GND (power)
part A text: Block L; Block K; Block J; Block I; Block A; Block B; Block H; Block C; Block G; Block D; Block E; Block F

## M4-192/96-12VI
designator U?
High-Performance EE CMOS In-System Programmable Logic; Published: 23-Sep-2002; LatestRevisionDate: 13-Apr-2006; LatestRevisionNote: IPC-7351 Footprint Added.; DatasheetVersion: Mar-2000; PackageVersion: pkg_32, Aug-2005; PackageReference: TQFP144; Publisher: Altium Limited; PackageDescription: 144-Pin Thin Quad Flat Pack (TQFP144); Code_JEDEC: MS-026-BFB; ComponentLink1Description: Manufacturer Link; ComponentLink1URL: http://www.latticesemi.com/products/mature/index.cfm; ComponentLink2Description: Datasheet; ComponentLink2URL: http://www.latticesemi.com/lit/docs/datasheets/cpld/mach4.pdf
footprint TQFP144_N (Thin QFP, 144-Leads, Body 20x20mm, Pitch 0.5mm, IPC Medium Density)
footprint TQFP144_L (Thin QFP, 144-Leads, Body 20x20mm, Pitch 0.5mm, IPC High Density)
footprint TQFP144_M (Thin QFP, 144-Leads, Body 20x20mm, Pitch 0.5mm, IPC Low Density)
3D model M4-TQFP144 (144-Pin Thin Quad Flat Pack (TQFP144))
part A pins: 3 I/O0 D7 (io), 4 I/O1 D6 (io), 5 I/O2 D5 (io), 6 I/O3 D4 (io), 7 I/O4 D3 (io), 8 I/O5 D2 (io), 9 I/O6 D1 (io), 10 I/O7 D0 (io), 16 I/O8 C7 (io), 17 I/O9 C6 (io), 18 I/O10 C5 (io), 19 I/O11 C4 (io), 20 I/O12 C3 (io), 21 I/O13 C2 (io), 22 I/O14 C1 (io), 23 I/O15 C0 (io), 26 I/O16 E7 (io), 27 I/O17 E6 (io), 28 I/O18 E5 (io), 29 I/O19 E4 (io), 30 I/O20 E3 (io), 31 I/O21 E2 (io), 32 I/O22 E1 (io), 33 I/O23 E0 (io), 38 I/O24 F7 (io), 39 I/O25 F6 (io), 40 I/O26 F5 (io), 41 I/O27 F4 (io), 42 I/O28 F3 (io), 43 I/O29 F2 (io), 44 I/O30 F1 (io), 45 I/O31 F0 (io), 55 I/O32 G0 (io), 56 I/O33 G1 (io), 57 I/O34 G2 (io), 58 I/O35 G3 (io), 59 I/O36 G4 (io), 60 I/O37 G5 (io), 61 I/O38 G6 (io), 62 I/O39 G7 (io), 65 I/O40 H0 (io), 66 I/O41 H1 (io), 67 I/O42 H2 (io), 68 I/O43 H3 (io), 69 I/O44 H4 (io), 70 I/O45 H5 (io), 71 I/O46 H6 (io), 72 I/O47 H7 (io), 75 I/O48 I7 (io), 76 I/O49 I6 (io), 77 I/O50 I5 (io), 78 I/O51 I4 (io), 79 I/O52 I3 (io), 80 I/O53 I2 (io), 81 I/O54 I1 (io), 82 I/O55 I0 (io), 85 I/O56 J7 (io), 86 I/O57 J6 (io), 87 I/O58 J5 (io), 88 I/O59 J4 (io), 89 I/O60 J3 (io), 90 I/O61 J2 (io), 91 I/O62 J1 (io), 92 I/O63 J0 (io), 98 I/O64 K7 (io), 99 I/O65 K6 (io), 100 I/O66 K5 (io), 101 I/O67 K4 (io), 102 I/O68 K3 (io), 103 I/O69 K2 (io), 104 I/O70 K1 (io), 105 I/O71 K0 (io), 110 I/O72 L7 (io), 111 I/O73 L6 (io), 112 I/O74 L5 (io), 113 I/O75 L4 (io), 114 I/O76 L3 (io), 115 I/O77 L2 (io), 116 I/O78 L1 (io), 117 I/O79 L0 (io), 127 I/O80 A0 (io), 128 I/O81 A1 (io), 129 I/O82 A2 (io), 130 I/O83 A3 (io), 131 I/O84 A4 (io), 132 I/O85 A5 (io), 133 I/O86 A6 (io), 134 I/O87 A7 (io), 137 I/O88 B0 (io), 138 I/O89 B1 (io), 139 I/O90 B2 (io), 140 I/O91 B3 (io), 141 I/O92 B4 (io), 142 I/O93 B5 (io), 143 I/O94 B6 (io), 144 I/O95 B7 (io)
part B pins: 1 GND (power), 2 TDI (in), 11 I2 (in), 12 I3 (in), 13 VCC (power), 14 GND (power), 15 I4 (in), 24 GND (power), 25 VCC (power), 34 TMS (in), 35 TCK (in), 36 GND (power), 37 GND (power), 46 I5 (in), 47 I6 (in), 48 I7 (in), 49 CLK1 (in), 50 GND (power), 51 VCC (power), 52 CLK2 (in), 53 I8 (in), 54 I9 (in), 63 VCC (power), 64 GND (power), 73 GND (power), 74 NC, 83 VCC (power), 84 GND (power), 93 I10 (in), 94 I11 (in), 95 GND (power), 96 VCC (power), 97 I12 (in), 106 NC, 107 TDO (out), 108 GND (power), 109 GND (power), 118 I13 (in), 119 I14 (in), 120 I15 (in), 121 CLK3 (in), 122 VCC (power), 123 GND (power), 124 CLK0 (in), 125 I0 (in), 126 I1 (in), 135 VCC (power), 136 GND (power)
part A text: Block L; Block K; Block J; Block I; Block A; Block B; Block H; Block C; Block G; Block D; Block E; Block F

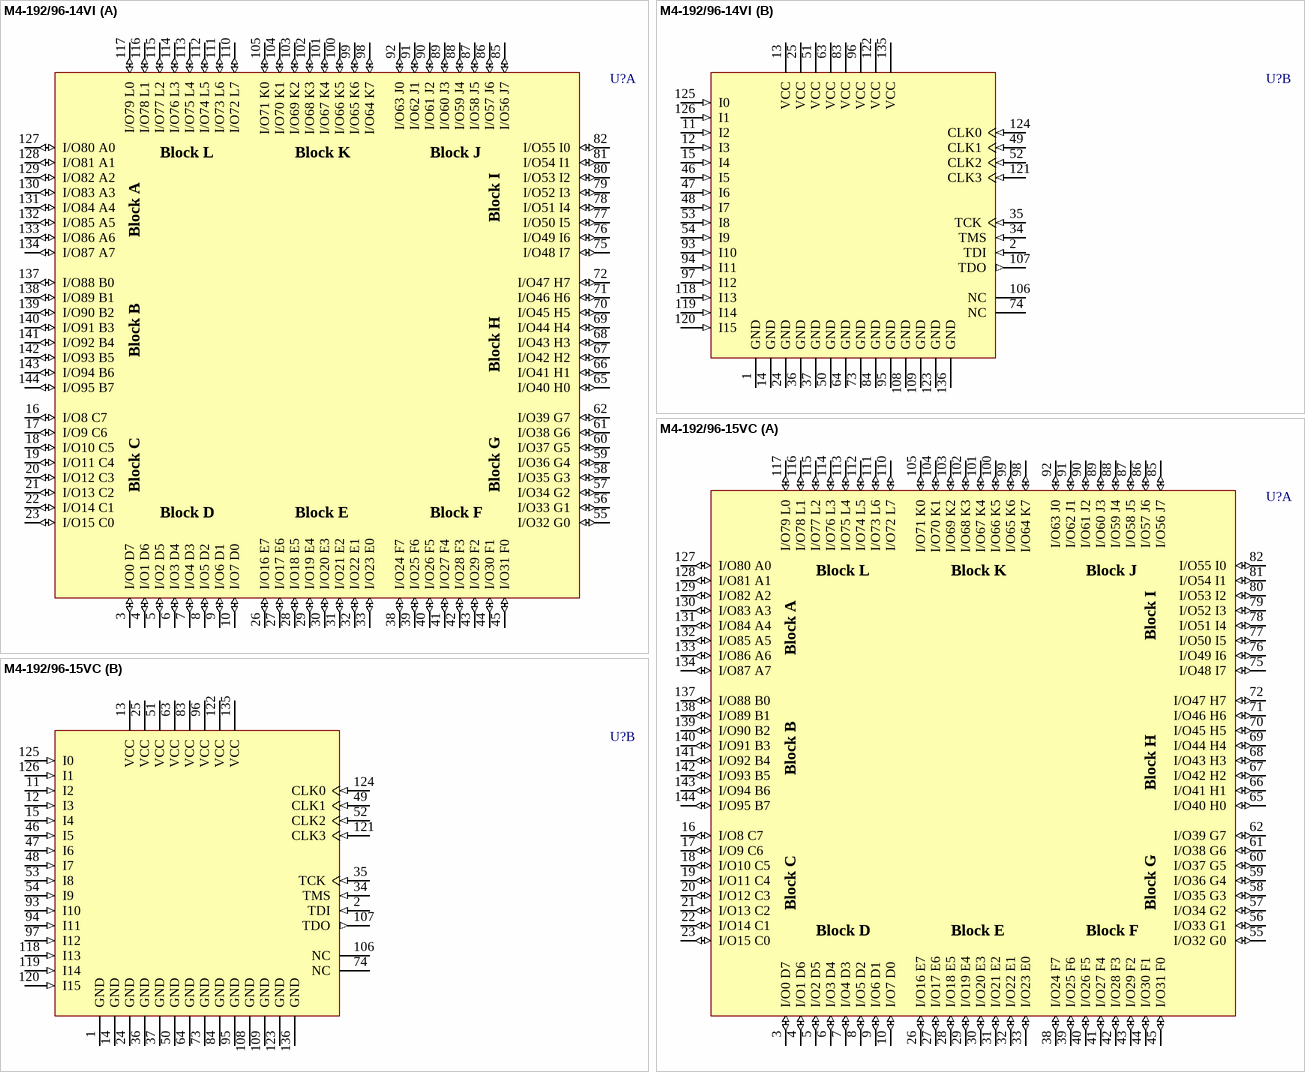
[diagram p16: symbols M4-192/96-14VI to M4-192/96-15VC]

## M4-192/96-14VI
designator U?
High-Performance EE CMOS In-System Programmable Logic; Published: 23-Sep-2002; LatestRevisionDate: 13-Apr-2006; LatestRevisionNote: IPC-7351 Footprint Added.; DatasheetVersion: Mar-2000; PackageVersion: pkg_32, Aug-2005; PackageReference: TQFP144; Publisher: Altium Limited; PackageDescription: 144-Pin Thin Quad Flat Pack (TQFP144); Code_JEDEC: MS-026-BFB; ComponentLink1Description: Manufacturer Link; ComponentLink1URL: http://www.latticesemi.com/products/mature/index.cfm; ComponentLink2Description: Datasheet; ComponentLink2URL: http://www.latticesemi.com/lit/docs/datasheets/cpld/mach4.pdf
footprint TQFP144_N (Thin QFP, 144-Leads, Body 20x20mm, Pitch 0.5mm, IPC Medium Density)
footprint TQFP144_L (Thin QFP, 144-Leads, Body 20x20mm, Pitch 0.5mm, IPC High Density)
footprint TQFP144_M (Thin QFP, 144-Leads, Body 20x20mm, Pitch 0.5mm, IPC Low Density)
3D model M4-TQFP144 (144-Pin Thin Quad Flat Pack (TQFP144))
part A pins: 3 I/O0 D7 (io), 4 I/O1 D6 (io), 5 I/O2 D5 (io), 6 I/O3 D4 (io), 7 I/O4 D3 (io), 8 I/O5 D2 (io), 9 I/O6 D1 (io), 10 I/O7 D0 (io), 16 I/O8 C7 (io), 17 I/O9 C6 (io), 18 I/O10 C5 (io), 19 I/O11 C4 (io), 20 I/O12 C3 (io), 21 I/O13 C2 (io), 22 I/O14 C1 (io), 23 I/O15 C0 (io), 26 I/O16 E7 (io), 27 I/O17 E6 (io), 28 I/O18 E5 (io), 29 I/O19 E4 (io), 30 I/O20 E3 (io), 31 I/O21 E2 (io), 32 I/O22 E1 (io), 33 I/O23 E0 (io), 38 I/O24 F7 (io), 39 I/O25 F6 (io), 40 I/O26 F5 (io), 41 I/O27 F4 (io), 42 I/O28 F3 (io), 43 I/O29 F2 (io), 44 I/O30 F1 (io), 45 I/O31 F0 (io), 55 I/O32 G0 (io), 56 I/O33 G1 (io), 57 I/O34 G2 (io), 58 I/O35 G3 (io), 59 I/O36 G4 (io), 60 I/O37 G5 (io), 61 I/O38 G6 (io), 62 I/O39 G7 (io), 65 I/O40 H0 (io), 66 I/O41 H1 (io), 67 I/O42 H2 (io), 68 I/O43 H3 (io), 69 I/O44 H4 (io), 70 I/O45 H5 (io), 71 I/O46 H6 (io), 72 I/O47 H7 (io), 75 I/O48 I7 (io), 76 I/O49 I6 (io), 77 I/O50 I5 (io), 78 I/O51 I4 (io), 79 I/O52 I3 (io), 80 I/O53 I2 (io), 81 I/O54 I1 (io), 82 I/O55 I0 (io), 85 I/O56 J7 (io), 86 I/O57 J6 (io), 87 I/O58 J5 (io), 88 I/O59 J4 (io), 89 I/O60 J3 (io), 90 I/O61 J2 (io), 91 I/O62 J1 (io), 92 I/O63 J0 (io), 98 I/O64 K7 (io), 99 I/O65 K6 (io), 100 I/O66 K5 (io), 101 I/O67 K4 (io), 102 I/O68 K3 (io), 103 I/O69 K2 (io), 104 I/O70 K1 (io), 105 I/O71 K0 (io), 110 I/O72 L7 (io), 111 I/O73 L6 (io), 112 I/O74 L5 (io), 113 I/O75 L4 (io), 114 I/O76 L3 (io), 115 I/O77 L2 (io), 116 I/O78 L1 (io), 117 I/O79 L0 (io), 127 I/O80 A0 (io), 128 I/O81 A1 (io), 129 I/O82 A2 (io), 130 I/O83 A3 (io), 131 I/O84 A4 (io), 132 I/O85 A5 (io), 133 I/O86 A6 (io), 134 I/O87 A7 (io), 137 I/O88 B0 (io), 138 I/O89 B1 (io), 139 I/O90 B2 (io), 140 I/O91 B3 (io), 141 I/O92 B4 (io), 142 I/O93 B5 (io), 143 I/O94 B6 (io), 144 I/O95 B7 (io)
part B pins: 1 GND (power), 2 TDI (in), 11 I2 (in), 12 I3 (in), 13 VCC (power), 14 GND (power), 15 I4 (in), 24 GND (power), 25 VCC (power), 34 TMS (in), 35 TCK (in), 36 GND (power), 37 GND (power), 46 I5 (in), 47 I6 (in), 48 I7 (in), 49 CLK1 (in), 50 GND (power), 51 VCC (power), 52 CLK2 (in), 53 I8 (in), 54 I9 (in), 63 VCC (power), 64 GND (power), 73 GND (power), 74 NC, 83 VCC (power), 84 GND (power), 93 I10 (in), 94 I11 (in), 95 GND (power), 96 VCC (power), 97 I12 (in), 106 NC, 107 TDO (out), 108 GND (power), 109 GND (power), 118 I13 (in), 119 I14 (in), 120 I15 (in), 121 CLK3 (in), 122 VCC (power), 123 GND (power), 124 CLK0 (in), 125 I0 (in), 126 I1 (in), 135 VCC (power), 136 GND (power)
part A text: Block L; Block K; Block J; Block I; Block A; Block B; Block H; Block C; Block G; Block D; Block E; Block F

## M4-192/96-15VC
designator U?
High-Performance EE CMOS In-System Programmable Logic; Published: 23-Sep-2002; LatestRevisionDate: 13-Apr-2006; LatestRevisionNote: IPC-7351 Footprint Added.; DatasheetVersion: Mar-2000; PackageVersion: pkg_32, Aug-2005; PackageReference: TQFP144; Publisher: Altium Limited; PackageDescription: 144-Pin Thin Quad Flat Pack (TQFP144); Code_JEDEC: MS-026-BFB; ComponentLink1Description: Manufacturer Link; ComponentLink1URL: http://www.latticesemi.com/products/mature/index.cfm; ComponentLink2Description: Datasheet; ComponentLink2URL: http://www.latticesemi.com/lit/docs/datasheets/cpld/mach4.pdf
footprint TQFP144_N (Thin QFP, 144-Leads, Body 20x20mm, Pitch 0.5mm, IPC Medium Density)
footprint TQFP144_L (Thin QFP, 144-Leads, Body 20x20mm, Pitch 0.5mm, IPC High Density)
footprint TQFP144_M (Thin QFP, 144-Leads, Body 20x20mm, Pitch 0.5mm, IPC Low Density)
3D model M4-TQFP144 (144-Pin Thin Quad Flat Pack (TQFP144))
part A pins: 3 I/O0 D7 (io), 4 I/O1 D6 (io), 5 I/O2 D5 (io), 6 I/O3 D4 (io), 7 I/O4 D3 (io), 8 I/O5 D2 (io), 9 I/O6 D1 (io), 10 I/O7 D0 (io), 16 I/O8 C7 (io), 17 I/O9 C6 (io), 18 I/O10 C5 (io), 19 I/O11 C4 (io), 20 I/O12 C3 (io), 21 I/O13 C2 (io), 22 I/O14 C1 (io), 23 I/O15 C0 (io), 26 I/O16 E7 (io), 27 I/O17 E6 (io), 28 I/O18 E5 (io), 29 I/O19 E4 (io), 30 I/O20 E3 (io), 31 I/O21 E2 (io), 32 I/O22 E1 (io), 33 I/O23 E0 (io), 38 I/O24 F7 (io), 39 I/O25 F6 (io), 40 I/O26 F5 (io), 41 I/O27 F4 (io), 42 I/O28 F3 (io), 43 I/O29 F2 (io), 44 I/O30 F1 (io), 45 I/O31 F0 (io), 55 I/O32 G0 (io), 56 I/O33 G1 (io), 57 I/O34 G2 (io), 58 I/O35 G3 (io), 59 I/O36 G4 (io), 60 I/O37 G5 (io), 61 I/O38 G6 (io), 62 I/O39 G7 (io), 65 I/O40 H0 (io), 66 I/O41 H1 (io), 67 I/O42 H2 (io), 68 I/O43 H3 (io), 69 I/O44 H4 (io), 70 I/O45 H5 (io), 71 I/O46 H6 (io), 72 I/O47 H7 (io), 75 I/O48 I7 (io), 76 I/O49 I6 (io), 77 I/O50 I5 (io), 78 I/O51 I4 (io), 79 I/O52 I3 (io), 80 I/O53 I2 (io), 81 I/O54 I1 (io), 82 I/O55 I0 (io), 85 I/O56 J7 (io), 86 I/O57 J6 (io), 87 I/O58 J5 (io), 88 I/O59 J4 (io), 89 I/O60 J3 (io), 90 I/O61 J2 (io), 91 I/O62 J1 (io), 92 I/O63 J0 (io), 98 I/O64 K7 (io), 99 I/O65 K6 (io), 100 I/O66 K5 (io), 101 I/O67 K4 (io), 102 I/O68 K3 (io), 103 I/O69 K2 (io), 104 I/O70 K1 (io), 105 I/O71 K0 (io), 110 I/O72 L7 (io), 111 I/O73 L6 (io), 112 I/O74 L5 (io), 113 I/O75 L4 (io), 114 I/O76 L3 (io), 115 I/O77 L2 (io), 116 I/O78 L1 (io), 117 I/O79 L0 (io), 127 I/O80 A0 (io), 128 I/O81 A1 (io), 129 I/O82 A2 (io), 130 I/O83 A3 (io), 131 I/O84 A4 (io), 132 I/O85 A5 (io), 133 I/O86 A6 (io), 134 I/O87 A7 (io), 137 I/O88 B0 (io), 138 I/O89 B1 (io), 139 I/O90 B2 (io), 140 I/O91 B3 (io), 141 I/O92 B4 (io), 142 I/O93 B5 (io), 143 I/O94 B6 (io), 144 I/O95 B7 (io)
part B pins: 1 GND (power), 2 TDI (in), 11 I2 (in), 12 I3 (in), 13 VCC (power), 14 GND (power), 15 I4 (in), 24 GND (power), 25 VCC (power), 34 TMS (in), 35 TCK (in), 36 GND (power), 37 GND (power), 46 I5 (in), 47 I6 (in), 48 I7 (in), 49 CLK1 (in), 50 GND (power), 51 VCC (power), 52 CLK2 (in), 53 I8 (in), 54 I9 (in), 63 VCC (power), 64 GND (power), 73 GND (power), 74 NC, 83 VCC (power), 84 GND (power), 93 I10 (in), 94 I11 (in), 95 GND (power), 96 VCC (power), 97 I12 (in), 106 NC, 107 TDO (out), 108 GND (power), 109 GND (power), 118 I13 (in), 119 I14 (in), 120 I15 (in), 121 CLK3 (in), 122 VCC (power), 123 GND (power), 124 CLK0 (in), 125 I0 (in), 126 I1 (in), 135 VCC (power), 136 GND (power)
part A text: Block L; Block K; Block J; Block I; Block A; Block B; Block H; Block C; Block G; Block D; Block E; Block F

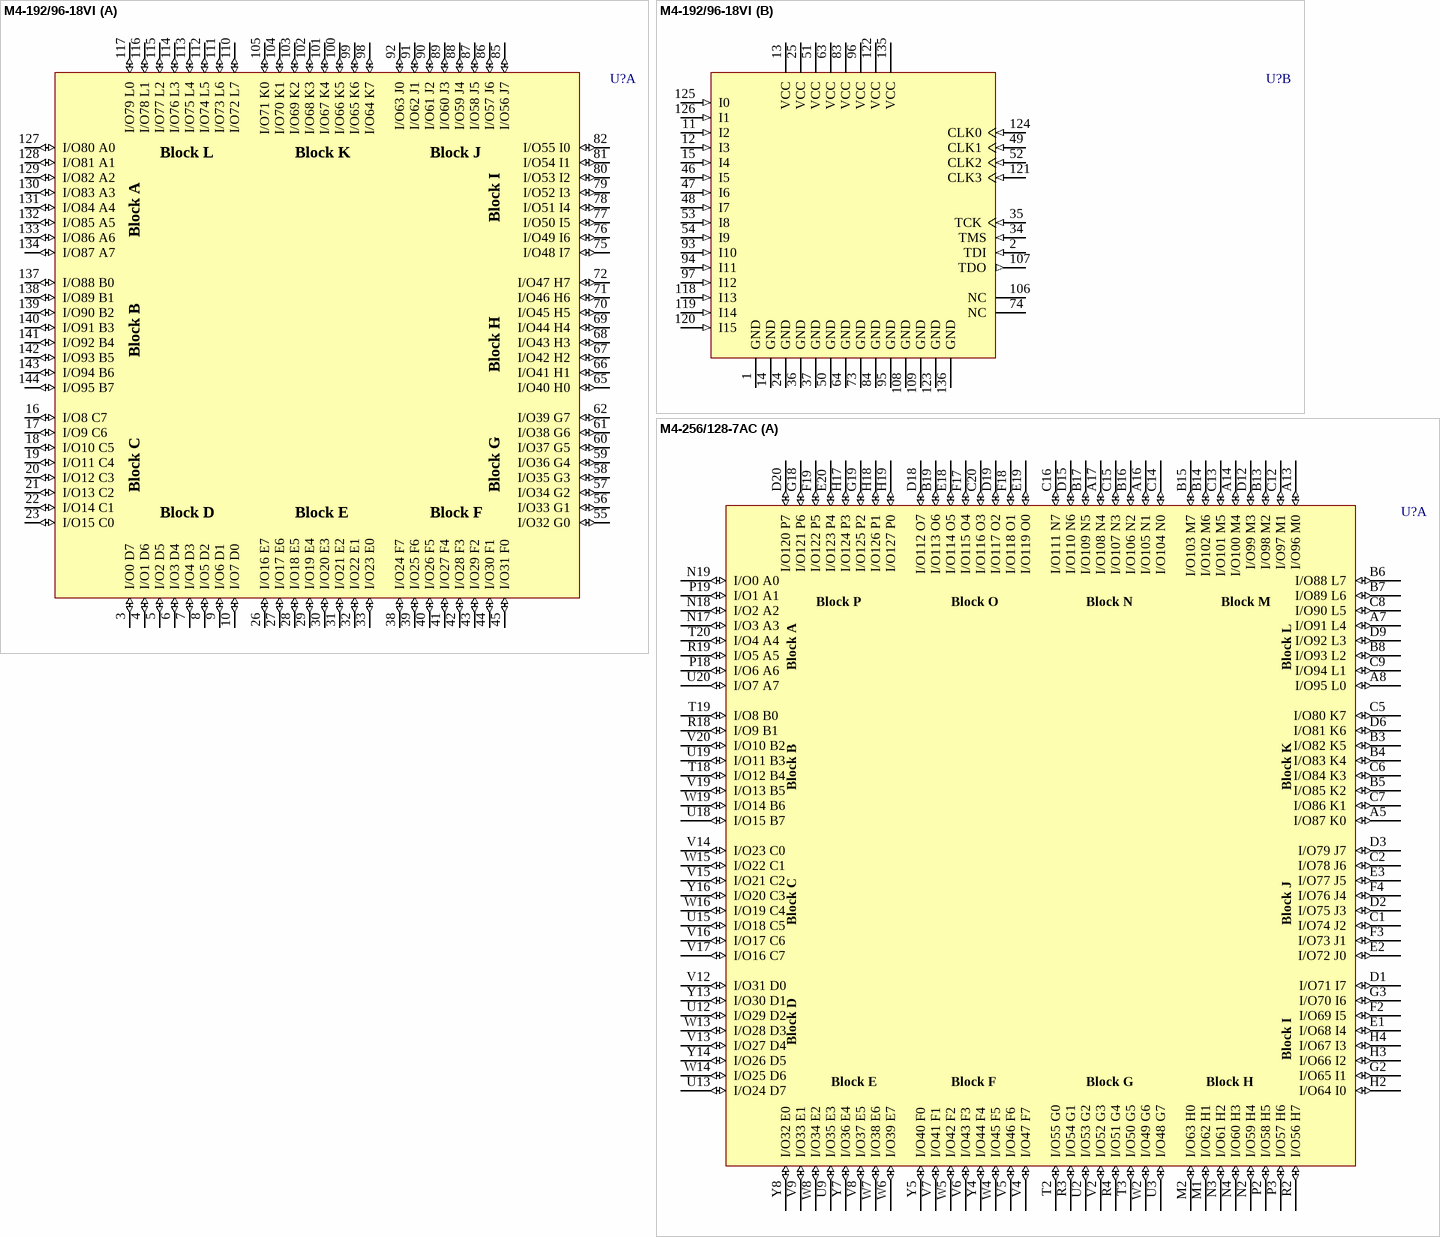
[diagram p17: symbols M4-192/96-18VI to M4-256/128-7AC]

## M4-192/96-18VI
designator U?
High-Performance EE CMOS In-System Programmable Logic; Published: 23-Sep-2002; LatestRevisionDate: 13-Apr-2006; LatestRevisionNote: IPC-7351 Footprint Added.; DatasheetVersion: Mar-2000; PackageVersion: pkg_32, Aug-2005; PackageReference: TQFP144; Publisher: Altium Limited; PackageDescription: 144-Pin Thin Quad Flat Pack (TQFP144); Code_JEDEC: MS-026-BFB; ComponentLink1Description: Manufacturer Link; ComponentLink1URL: http://www.latticesemi.com/products/mature/index.cfm; ComponentLink2Description: Datasheet; ComponentLink2URL: http://www.latticesemi.com/lit/docs/datasheets/cpld/mach4.pdf
footprint TQFP144_N (Thin QFP, 144-Leads, Body 20x20mm, Pitch 0.5mm, IPC Medium Density)
footprint TQFP144_L (Thin QFP, 144-Leads, Body 20x20mm, Pitch 0.5mm, IPC High Density)
footprint TQFP144_M (Thin QFP, 144-Leads, Body 20x20mm, Pitch 0.5mm, IPC Low Density)
3D model M4-TQFP144 (144-Pin Thin Quad Flat Pack (TQFP144))
part A pins: 3 I/O0 D7 (io), 4 I/O1 D6 (io), 5 I/O2 D5 (io), 6 I/O3 D4 (io), 7 I/O4 D3 (io), 8 I/O5 D2 (io), 9 I/O6 D1 (io), 10 I/O7 D0 (io), 16 I/O8 C7 (io), 17 I/O9 C6 (io), 18 I/O10 C5 (io), 19 I/O11 C4 (io), 20 I/O12 C3 (io), 21 I/O13 C2 (io), 22 I/O14 C1 (io), 23 I/O15 C0 (io), 26 I/O16 E7 (io), 27 I/O17 E6 (io), 28 I/O18 E5 (io), 29 I/O19 E4 (io), 30 I/O20 E3 (io), 31 I/O21 E2 (io), 32 I/O22 E1 (io), 33 I/O23 E0 (io), 38 I/O24 F7 (io), 39 I/O25 F6 (io), 40 I/O26 F5 (io), 41 I/O27 F4 (io), 42 I/O28 F3 (io), 43 I/O29 F2 (io), 44 I/O30 F1 (io), 45 I/O31 F0 (io), 55 I/O32 G0 (io), 56 I/O33 G1 (io), 57 I/O34 G2 (io), 58 I/O35 G3 (io), 59 I/O36 G4 (io), 60 I/O37 G5 (io), 61 I/O38 G6 (io), 62 I/O39 G7 (io), 65 I/O40 H0 (io), 66 I/O41 H1 (io), 67 I/O42 H2 (io), 68 I/O43 H3 (io), 69 I/O44 H4 (io), 70 I/O45 H5 (io), 71 I/O46 H6 (io), 72 I/O47 H7 (io), 75 I/O48 I7 (io), 76 I/O49 I6 (io), 77 I/O50 I5 (io), 78 I/O51 I4 (io), 79 I/O52 I3 (io), 80 I/O53 I2 (io), 81 I/O54 I1 (io), 82 I/O55 I0 (io), 85 I/O56 J7 (io), 86 I/O57 J6 (io), 87 I/O58 J5 (io), 88 I/O59 J4 (io), 89 I/O60 J3 (io), 90 I/O61 J2 (io), 91 I/O62 J1 (io), 92 I/O63 J0 (io), 98 I/O64 K7 (io), 99 I/O65 K6 (io), 100 I/O66 K5 (io), 101 I/O67 K4 (io), 102 I/O68 K3 (io), 103 I/O69 K2 (io), 104 I/O70 K1 (io), 105 I/O71 K0 (io), 110 I/O72 L7 (io), 111 I/O73 L6 (io), 112 I/O74 L5 (io), 113 I/O75 L4 (io), 114 I/O76 L3 (io), 115 I/O77 L2 (io), 116 I/O78 L1 (io), 117 I/O79 L0 (io), 127 I/O80 A0 (io), 128 I/O81 A1 (io), 129 I/O82 A2 (io), 130 I/O83 A3 (io), 131 I/O84 A4 (io), 132 I/O85 A5 (io), 133 I/O86 A6 (io), 134 I/O87 A7 (io), 137 I/O88 B0 (io), 138 I/O89 B1 (io), 139 I/O90 B2 (io), 140 I/O91 B3 (io), 141 I/O92 B4 (io), 142 I/O93 B5 (io), 143 I/O94 B6 (io), 144 I/O95 B7 (io)
part B pins: 1 GND (power), 2 TDI (in), 11 I2 (in), 12 I3 (in), 13 VCC (power), 14 GND (power), 15 I4 (in), 24 GND (power), 25 VCC (power), 34 TMS (in), 35 TCK (in), 36 GND (power), 37 GND (power), 46 I5 (in), 47 I6 (in), 48 I7 (in), 49 CLK1 (in), 50 GND (power), 51 VCC (power), 52 CLK2 (in), 53 I8 (in), 54 I9 (in), 63 VCC (power), 64 GND (power), 73 GND (power), 74 NC, 83 VCC (power), 84 GND (power), 93 I10 (in), 94 I11 (in), 95 GND (power), 96 VCC (power), 97 I12 (in), 106 NC, 107 TDO (out), 108 GND (power), 109 GND (power), 118 I13 (in), 119 I14 (in), 120 I15 (in), 121 CLK3 (in), 122 VCC (power), 123 GND (power), 124 CLK0 (in), 125 I0 (in), 126 I1 (in), 135 VCC (power), 136 GND (power)
part A text: Block L; Block K; Block J; Block I; Block A; Block B; Block H; Block C; Block G; Block D; Block E; Block F

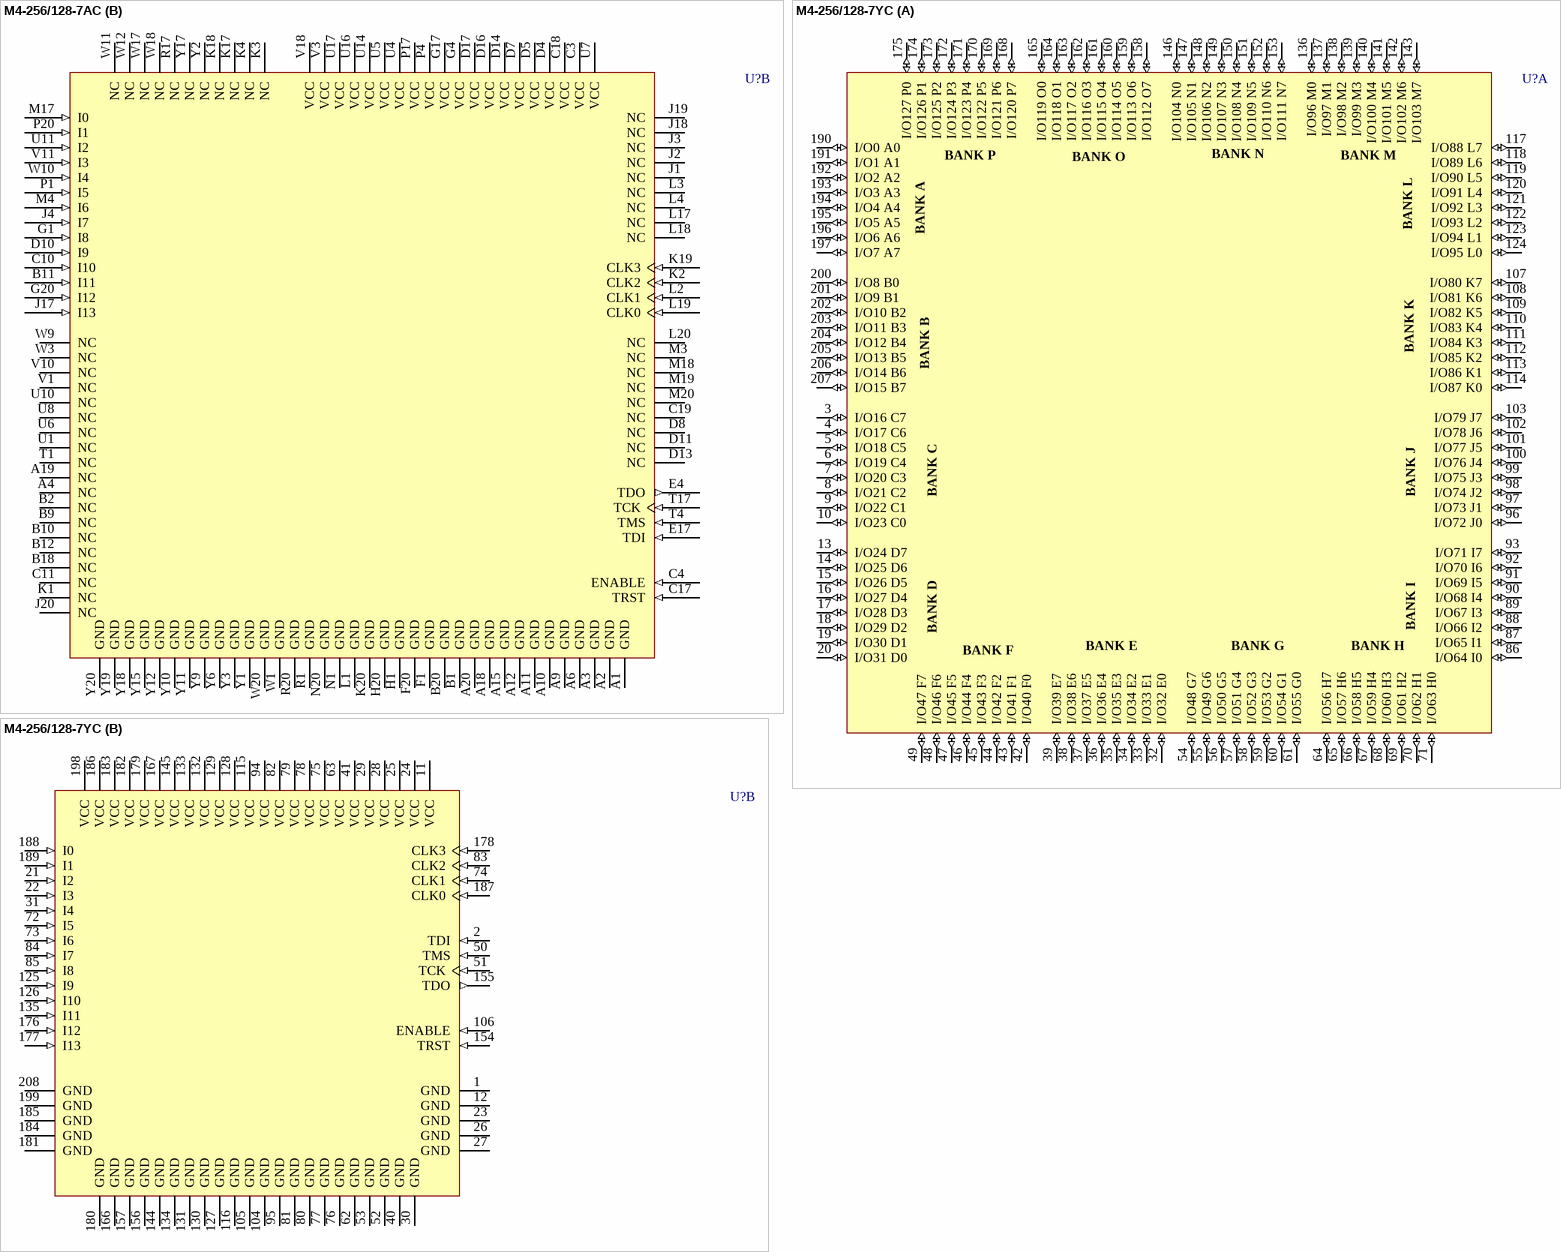
[diagram p18: symbols M4-256/128-7AC to M4-256/128-7YC]

## M4-256/128-7AC
designator U?
High-Performance EE CMOS In-System Programmable Logic; Published: 23-Sep-2002; LatestRevisionDate: 13-Apr-2006; LatestRevisionNote: IPC-7351 Footprint Added.; DatasheetVersion: Mar-2000; PackageVersion: pkg_32, Aug-2005; PackageReference: SBGA256; Publisher: Altium Limited; PackageDescription: 256-Ball Super Ball Grid Array (SBGA256); ComponentLink1Description: Manufacturer Link; ComponentLink1URL: http://www.latticesemi.com/products/mature/index.cfm; ComponentLink2Description: Datasheet; ComponentLink2URL: http://www.latticesemi.com/lit/docs/datasheets/cpld/mach4.pdf
footprint SBGA256 (BGA, 256-Leads, Body 27x27mm, Pitch 1.27mm)
3D model M4-SBGA256 (256-Ball Super Ball Grid Array (SBGA256))
part A pins: A5 I/O87 K0 (io), A7 I/O91 L4 (io), A8 I/O95 L0 (io), A13 I/O96 M0 (io), A14 I/O100 M4 (io), A16 I/O105 N1 (io), A17 I/O108 N4 (io), B3 I/O82 K5 (io), B4 I/O83 K4 (io), B5 I/O85 K2 (io), B6 I/O88 L7 (io), B7 I/O89 L6 (io), B8 I/O93 L2 (io), B13 I/O98 M2 (io), B14 I/O102 M6 (io), B15 I/O103 M7 (io), B16 I/O106 N2 (io), B17 I/O109 N5 (io), B19 I/O113 O6 (io), C1 I/O74 J2 (io), C2 I/O78 J6 (io), C5 I/O80 K7 (io), C6 I/O84 K3 (io), C7 I/O86 K1 (io), C8 I/O90 L5 (io), C9 I/O94 L1 (io), C12 I/O97 M1 (io), C13 I/O101 M5 (io), C14 I/O104 N0 (io), C15 I/O107 N3 (io), C16 I/O111 N7 (io), C20 I/O116 O3 (io), D1 I/O71 I7 (io), D2 I/O75 J3 (io), D3 I/O79 J7 (io), D6 I/O81 K6 (io), D9 I/O92 L3 (io), D12 I/O99 M3 (io), D15 I/O110 N6 (io), D18 I/O112 O7 (io), D19 I/O117 O2 (io), D20 I/O120 P7 (io), E1 I/O68 I4 (io), E2 I/O72 J0 (io), E3 I/O77 J5 (io), E18 I/O114 O5 (io), E19 I/O119 O0 (io), E20 I/O123 P4 (io), F2 I/O69 I5 (io), F3 I/O73 J1 (io), F4 I/O76 J4 (io), F17 I/O115 O4 (io), F18 I/O118 O1 (io), F19 I/O122 P5 (io), G2 I/O65 I1 (io), G3 I/O70 I6 (io), G18 I/O121 P6 (io), G19 I/O125 P2 (io), H2 I/O64 I0 (io), H3 I/O66 I2 (io), H4 I/O67 I3 (io), H17 I/O124 P3 (io), H18 I/O126 P1 (io), H19 I/O127 P0 (io), M1 I/O62 H1 (io), M2 I/O63 H0 (io), N2 I/O59 H4 (io), N3 I/O61 H2 (io), N4 I/O60 H3 (io), N17 I/O3 A3 (io), N18 I/O2 A2 (io), N19 I/O0 A0 (io), P2 I/O58 H5 (io), P3 I/O57 H6 (io), P18 I/O6 A6 (io), P19 I/O1 A1 (io), R2 I/O56 H7 (io), R3 I/O54 G1 (io), R4 I/O51 G4 (io), R18 I/O9 B1 (io), R19 I/O5 A5 (io), T2 I/O55 G0 (io), T3 I/O50 G5 (io), T18 I/O12 B4 (io), T19 I/O8 B0 (io), T20 I/O4 A4 (io), U2 I/O53 G2 (io), U3 I/O48 G7 (io), U9 I/O35 E3 (io), U12 I/O29 D2 (io), U13 I/O24 D7 (io), U15 I/O18 C5 (io), U18 I/O15 B7 (io), U19 I/O11 B3 (io), U20 I/O7 A7 (io), V2 I/O52 G3 (io), V4 I/O47 F7 (io), V5 I/O46 F6 (io), V6 I/O43 F3 (io), V7 I/O41 F1 (io), V8 I/O37 E5 (io), V9 I/O33 E1 (io), V12 I/O31 D0 (io), V13 I/O27 D4 (io), V14 I/O23 C0 (io), V15 I/O21 C2 (io), V16 I/O17 C6 (io), V17 I/O16 C7 (io), V19 I/O13 B5 (io), V20 I/O10 B2 (io), W2 I/O49 G6 (io), W4 I/O45 F5 (io), W5 I/O42 F2 (io), W6 I/O39 E7 (io), W7 I/O38 E6 (io), W8 I/O34 E2 (io), W13 I/O28 D3 (io), W14 I/O25 D6 (io), W15 I/O22 C1 (io), W16 I/O19 C4 (io), W19 I/O14 B6 (io), Y4 I/O44 F4 (io), Y5 I/O40 F0 (io), Y7 I/O36 E4 (io), Y8 I/O32 E0 (io), Y13 I/O30 D1 (io), Y14 I/O26 D5 (io), Y16 I/O20 C3 (io)
part B pins: A1 GND (power), A2 GND (power), A3 GND (power), A4 NC, A6 GND (power), A9 GND (power), A10 GND (power), A11 GND (power), A12 GND (power), A15 GND (power), A18 GND (power), A19 NC, A20 GND (power), B1 GND (power), B2 NC, B9 NC, B10 NC, B11 I11 (in), B12 NC, B18 NC, B20 GND (power), C3 VCC (power), C4 ENABLE (in), C10 I10 (in), C11 NC, C17 TRST (in), C18 VCC (power), C19 NC, D4 VCC (power), D5 VCC (power), D7 VCC (power), D8 NC, D10 I9 (in), D11 NC, D13 NC, D14 VCC (power), D16 VCC (power), D17 VCC (power), E4 TDO (out), E17 TDI (in), F1 GND (power), F20 GND (power), G1 I8 (in), G4 VCC (power), G17 VCC (power), G20 I12 (in), H1 GND (power), H20 GND (power), J1 NC, J2 NC, J3 NC, J4 I7 (in), J17 I13 (in), J18 NC, J19 NC, J20 NC, K1 NC, K2 CLK2 (in), K3 NC, K4 NC, K17 NC, K18 NC, K19 CLK3 (in), K20 GND (power), L1 GND (power), L2 CLK1 (in), L3 NC, L4 NC, L17 NC, L18 NC, L19 CLK0 (in), L20 NC, M3 NC, M4 I6 (in), M17 I0 (in), M18 NC, M19 NC, M20 NC, N1 GND (power), N20 GND (power), P1 I5 (in), P4 VCC (power), P17 VCC (power), P20 I1 (in), R1 GND (power), R17 NC, R20 GND (power), T1 NC, T4 TMS (in), T17 TCK (in), U1 NC, U4 VCC (power), U5 VCC (power), U6 NC, U7 VCC (power), U8 NC, U10 NC, U11 I2 (in), U14 VCC (power), U16 VCC (power), U17 VCC (power), V1 NC, V3 VCC (power), V10 NC, V11 I3 (in), V18 VCC (power), W1 GND (power), W3 NC, W9 NC, W10 I4 (in), W11 NC, W12 NC, W17 NC, W18 NC, W20 GND (power), Y1 GND (power), Y2 NC, Y3 GND (power), Y6 GND (power), Y9 GND (power), Y10 GND (power), Y11 GND (power), Y12 GND (power), Y15 GND (power), Y17 NC, Y18 GND (power), Y19 GND (power), Y20 GND (power)
part A text: Block P; Block O; Block N; Block M; Block A; Block L; Block B; Block K; Block C; Block J; Block D; Block I; Block E; Block F; Block G; Block H